# Altium integrated library ERL_Components.IntLib: 76 symbols
Pins are listed as number, name and electrical type; pins without a type are passive.

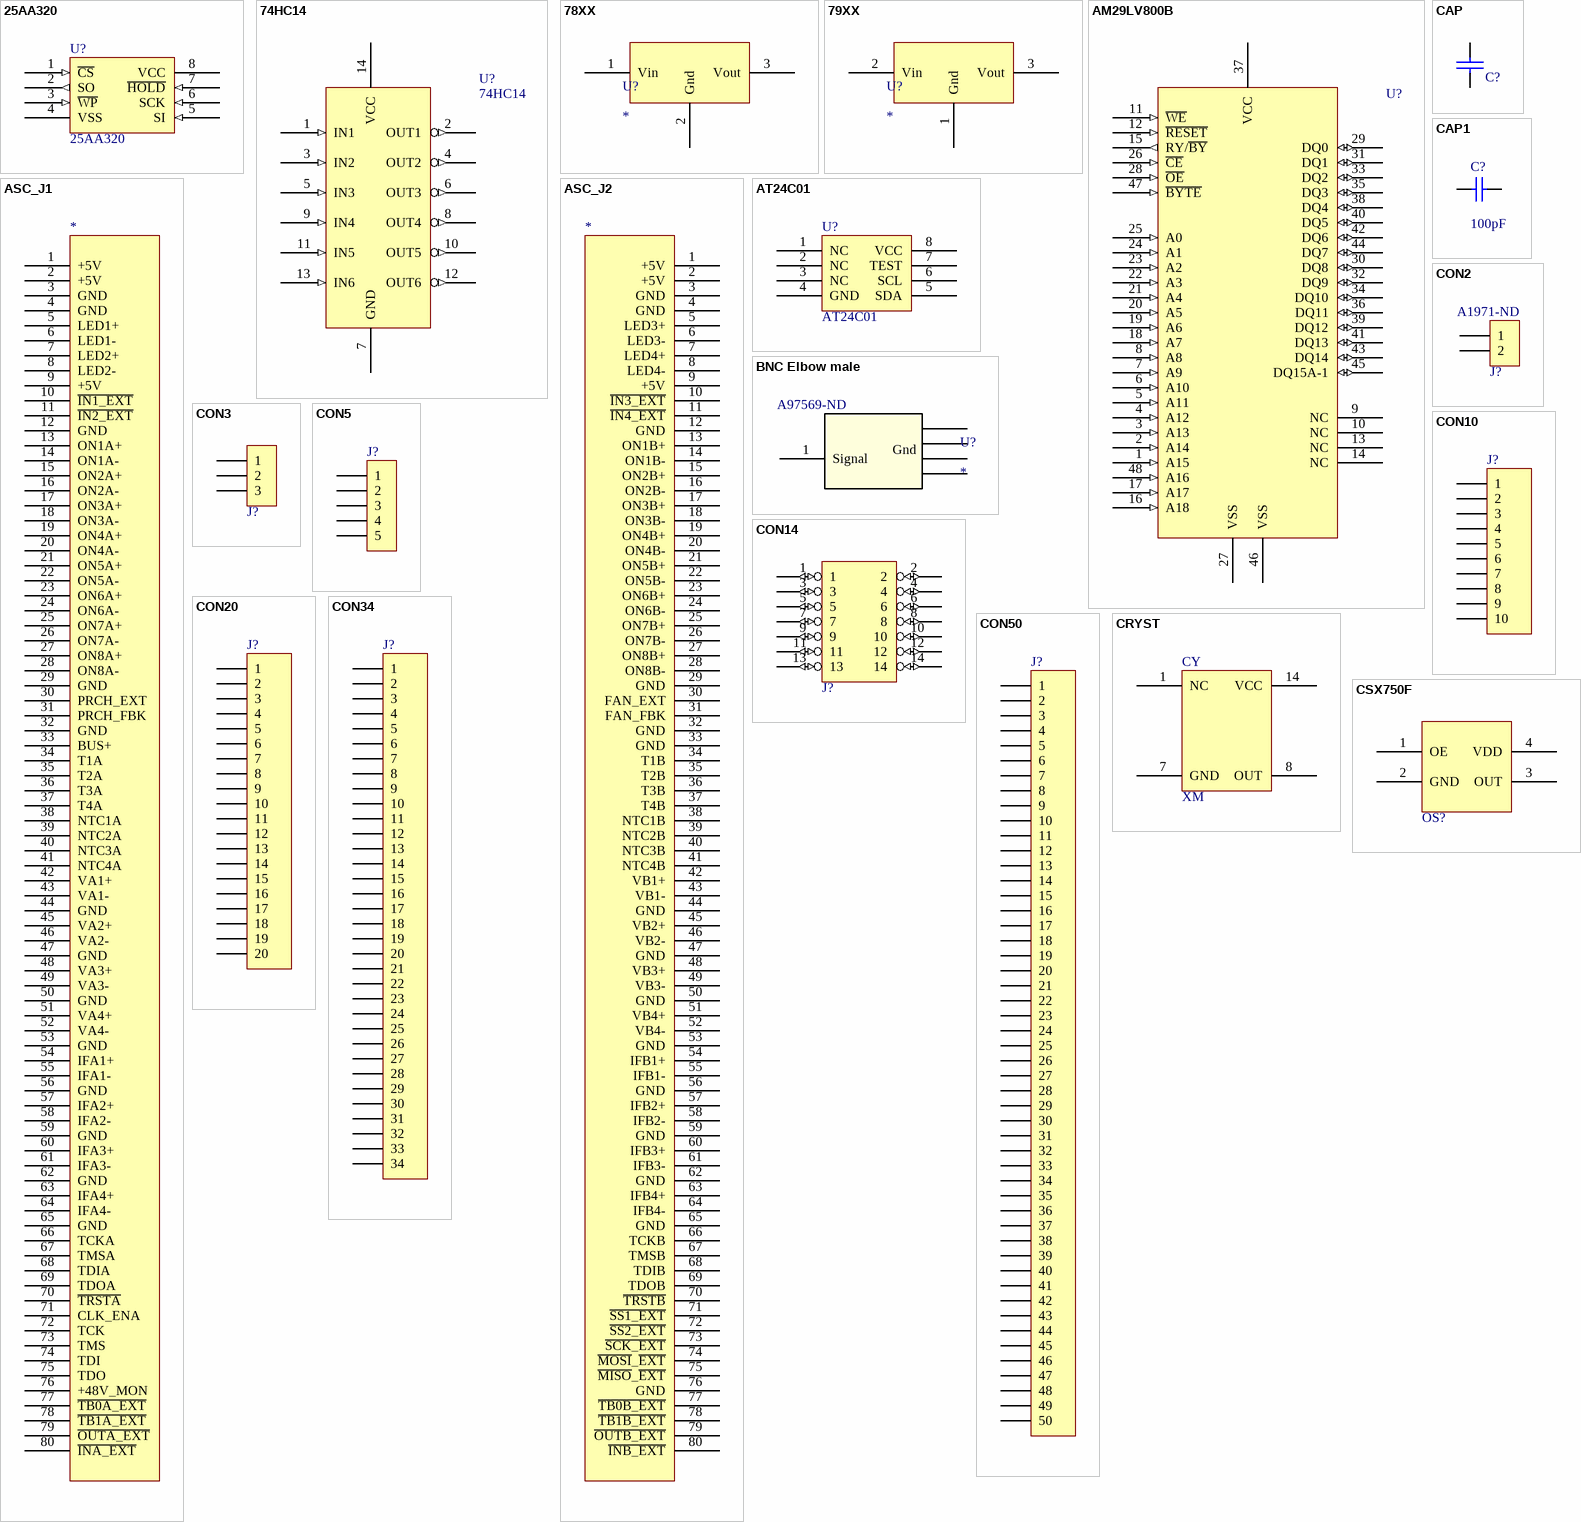
[diagram p0: symbols 25AA320 to CSX750F]

## 25AA320
designator U?
EEPROM
footprint TSSOP8
pins: 1 ~{CS} (in), 2 SO (out), 3 ~{WP} (in), 4 VSS (power), 5 SI (in), 6 SCK (in), 7 ~{HOLD} (in), 8 VCC (power)

## 74HC14
designator U?
Hex Schmitt Trigger Inverters
footprint DIP20
footprint SO-G14
pins: 1 IN1 (in), 2 OUT1 (out), 3 IN2 (in), 4 OUT2 (out), 5 IN3 (in), 6 OUT3 (out), 7 GND (power), 8 OUT4 (out), 9 IN4 (in), 10 OUT5 (out), 11 IN5 (in), 12 OUT6 (out), 13 IN6 (in), 14 VCC (power)

## 78XX
designator U?
Positive linear voltage regulator (1 A)
footprint TO-220
pins: 1 Vin, 2 Gnd, 3 Vout

## 79XX
designator U?
Negative linear voltage regulator (1 A)
footprint TO-220
pins: 1 Gnd, 2 Vin, 3 Vout

## AM29LV800B
designator U?  (value not drawn)
8 Mbit (1Mb x8 or 512Kb x16 Flash Memory, Standard TSOP
footprint TSSO12x20-G48/P.5
pins: 1 A15 (in), 2 A14 (in), 3 A13 (in), 4 A12 (in), 5 A11 (in), 6 A10 (in), 7 A9 (in), 8 A8 (in), 9 NC, 10 NC, 11 ~{WE} (in), 12 ~{RESET} (in), 13 NC, 14 NC, 15 RY/~{BY} (out), 16 A18 (in), 17 A17 (in), 18 A7 (in), 19 A6 (in), 20 A5 (in), 21 A4 (in), 22 A3 (in), 23 A2 (in), 24 A1 (in), 25 A0 (in), 26 ~{CE} (in), 27 VSS (power), 28 ~{OE} (in), 29 DQ0 (io), 30 DQ8 (io), 31 DQ1 (io), 32 DQ9 (io), 33 DQ2 (io), 34 DQ10 (io), 35 DQ3 (io), 36 DQ11 (io), 37 VCC (power), 38 DQ4 (io), 39 DQ12 (io), 40 DQ5 (io), 41 DQ13 (io), 42 DQ6 (io), 43 DQ14 (io), 44 DQ7 (io), 45 DQ15A-1 (io), 46 VSS (power), 47 ~{BYTE} (in), 48 A16 (in)

## ASC_J1
designator *
footprint SFML-80N
pins: 1 +5V, 2 +5V, 3 GND, 4 GND, 5 LED1+, 6 LED1-, 7 LED2+, 8 LED2-, 9 +5V, 10 ~{IN1_EXT}, 11 ~{IN2_EXT}, 12 GND, 13 ON1A+, 14 ON1A-, 15 ON2A+, 16 ON2A-, 17 ON3A+, 18 ON3A-, 19 ON4A+, 20 ON4A-, 21 ON5A+, 22 ON5A-, 23 ON6A+, 24 ON6A-, 25 ON7A+, 26 ON7A-, 27 ON8A+, 28 ON8A-, 29 GND, 30 PRCH_EXT, 31 PRCH_FBK, 32 GND, 33 BUS+, 34 T1A, 35 T2A, 36 T3A, 37 T4A, 38 NTC1A, 39 NTC2A, 40 NTC3A, 41 NTC4A, 42 VA1+, 43 VA1-, 44 GND, 45 VA2+, 46 VA2-, 47 GND, 48 VA3+, 49 VA3-, 50 GND, 51 VA4+, 52 VA4-, 53 GND, 54 IFA1+, 55 IFA1-, 56 GND, 57 IFA2+, 58 IFA2-, 59 GND, 60 IFA3+, 61 IFA3-, 62 GND, 63 IFA4+, 64 IFA4-, 65 GND, 66 TCKA, 67 TMSA, 68 TDIA, 69 TDOA, 70 ~{TRSTA}, 71 CLK_ENA, 72 TCK, 73 TMS, 74 TDI, 75 TDO, 76 +48V_MON, 77 ~{TB0A_EXT}, 78 ~{TB1A_EXT}, 79 ~{OUTA_EXT}, 80 ~{INA_EXT}

## ASC_J2
designator *
footprint SFML-80N
pins: 1 +5V, 2 +5V, 3 GND, 4 GND, 5 LED3+, 6 LED3-, 7 LED4+, 8 LED4-, 9 +5V, 10 ~{IN3_EXT}, 11 ~{IN4_EXT}, 12 GND, 13 ON1B+, 14 ON1B-, 15 ON2B+, 16 ON2B-, 17 ON3B+, 18 ON3B-, 19 ON4B+, 20 ON4B-, 21 ON5B+, 22 ON5B-, 23 ON6B+, 24 ON6B-, 25 ON7B+, 26 ON7B-, 27 ON8B+, 28 ON8B-, 29 GND, 30 FAN_EXT, 31 FAN_FBK, 32 GND, 33 GND, 34 T1B, 35 T2B, 36 T3B, 37 T4B, 38 NTC1B, 39 NTC2B, 40 NTC3B, 41 NTC4B, 42 VB1+, 43 VB1-, 44 GND, 45 VB2+, 46 VB2-, 47 GND, 48 VB3+, 49 VB3-, 50 GND, 51 VB4+, 52 VB4-, 53 GND, 54 IFB1+, 55 IFB1-, 56 GND, 57 IFB2+, 58 IFB2-, 59 GND, 60 IFB3+, 61 IFB3-, 62 GND, 63 IFB4+, 64 IFB4-, 65 GND, 66 TCKB, 67 TMSB, 68 TDIB, 69 TDOB, 70 ~{TRSTB}, 71 ~{SS1_EXT}, 72 ~{SS2_EXT}, 73 ~{SCK_EXT}, 74 ~{MOSI}_~{EXT}, 75 ~{MISO}_~{EXT}, 76 GND, 77 ~{TB0B_EXT}, 78 ~{TB1B_EXT}, 79 ~{OUTB_EXT}, 80 ~{INB_EXT}

## AT24C01
designator U?
EEPROM
footprint DIP8
pins: 1 NC, 2 NC, 3 NC, 4 GND, 5 SDA, 6 SCL, 7 TEST, 8 VCC

## BNC Elbow male
designator U?  Supplier Part Number 1: A97569-ND
BNC Low Profile Elbow Connector; Manufacturer_Part_Number: 5-1634513-1; Manufacturer: TE Connectivity; Vendor: Tyco Electronics; Description: CONN BNC JACK R/A 50 OHM PCB; Body Material: Zinc; Body Plating: Nickel; Dielectric Material: PTFE; Impedance: 50R; Contact Resistance: 1.5mR; Mating Cycles: 50; Gender: Female; Frequency: 2GHz; Connector Type: BNC,Jack; Insulation Resistance: 5GR; Working Voltage: 500V; Polarity: Normal; Number of Positions: 1; PCB Mount Retention: With; PCB Mounting Orientation: Right Angle; Sealable: No (Without); PCB Thickness: 0.126inch; Copyright: Copyright (C) 2015 Accelerated Designs. All rights reserved; Value: Value; Type: Type; RefDes: RefDes; Supplier 1: Digi-Key; Manufacturer Part Number: 5-1634513-1; Stock 1: 1905; Pricing 1: 1=3.31, 10=3.18, 25=2.9148, 50=2.7824, 100=2.6498, 250=2.3186, 500=2.25234, 1000=1.92112, 2500=1.78863 (USD); Mount: Through Hole,PCB; Contact Material: Bronze; Contact Plating: Gold; Insulation Material: Polytetrafluoroethylene; Min Operating Temperature: -55°C; Max Operating Temperature: 85°C; Packaging: Tray; Package Quantity: 100; Fastening Type: Bayonet; Termination: Solder; Max Frequency: 2GHz; Orientation: Right Angle; Length: 28.1mm; Depth: 11mm; Radiation Hardening: No; REACH SVHC: Unknown; ComponentLink1URL: https://datasheet.ciiva.com/9423/eng-cd-1634513-c-9423831.pdf; ComponentLink1Description: https://datasheet.ciiva.com/9423/eng-cd-1634513-c-9423831.pdf; ComponentLink2URL: https://datasheet.ciiva.com/1448/49781-1448584.pdf; ComponentLink2Description: https://datasheet.ciiva.com/1448/49781-1448584.pdf; ComponentLink3URL: https://datasheet.ciiva.com/5757/49781-5757585.pdf; ComponentLink3Description: https://datasheet.ciiva.com/5757/49781-5757585.pdf; ComponentLink4URL: https://datasheet.ciiva.com/14567/70084641-14567974.pdf; ComponentLink4Description: https://datasheet.ciiva.com/14567/70084641-14567974.pdf; ComponentLink5URL: https://datasheet.ciiva.com/642/eng-cd-1634513-e-642840.pdf; ComponentLink5Description: https://datasheet.ciiva.com/642/eng-cd-1634513-e-642840.pdf; ComponentLink6URL: https://datasheet.ciiva.com/16652/eng-cd-1634513-c-16652898.pdf; ComponentLink6Description: https://datasheet.ciiva.com/16652/eng-cd-1634513-c-16652898.pdf; ComponentLink7URL: https://datasheet.ciiva.com/11762/0900766b807b5959-11762602.pdf; ComponentLink7Description: https://datasheet.ciiva.com/11762/0900766b807b5959-11762602.pdf
footprint 5-1814400-1
pins: 1 Signal, 2, 3, 4, 5
text: Gnd

## CAP
designator C?
Capacitor
footprint C104
pins: 1, 2

## CAP1
designator C?  value 100pF
Capacitor; Manufacturer: Generic Components; Class I: Passive; Published: 8-Jun-2000; Revision: July-2002: Re-released for DXP Platform.; Publisher: Altium Limited; Class II: Capacitor
footprint RAD0.1
footprint RAD0.2
footprint RAD0.3
footprint 0805
footprint 1206
footprint 1210
footprint C1206
pins: 1, 2

## CON2
designator J?  Supplier Part Number 1: A1971-ND
Connector; Manufacturer: TE Connectivity; Manufacturer Part Number: 640445-2; Description: CONN HEADER VERT 2POS .156 TIN; Underplate Material: Nickel; Current Rating: 7A; Number of Positions: 2; Connector Type: Tab; Mating Alignment: No (Without); Contact Resistance: 3mR; Max Voltage Rating (AC): 600V; Connector System: Wire-to-Board; Mating Retention: Yes (With); PCB Mount Retention: Without; Gender: Male; Circuit Application: Power; PCB Mounting Orientation: Vertical; Pitch: 0.156inch; Mating Post Length: 0.4inch; PCB Thickness: 0.063inch; Approvals: CSA; Supplier 1: Digi-Key; Stock 1: 36842; Pricing 1: 1=0.15, 10=0.144, 100=0.0886, 500=0.07332, 1000=0.06416, 5000=0.05499, 10000=0.05347 (USD); Mount: Through Hole,PCB; Contact Plating: Tin; Contact Material: Copper Alloy; Colour: White,Natural; Housing Colour: White; Housing Material: Polyester; Material: Polyester; Min Operating Temperature: -67°C; Max Operating Temperature: 221°C; Number of Rows: 1; Contact Gender: Male; Package Quantity: 1000; Packaging: Bulk; Termination: Solder; Number of Contacts: 2; Shrouded: No (Without); Fastening Type: Friction; Orientation: Straight; Backwall/Post Interruptions: No (Without); Contact Retention: No (Without); Number of Power Positions: 2; PCB Mount Alignment: No (Without); Sealable: No (Without); Strain Relief: No (Without); Contact Current Rating: 7A; Voltage Rating: 600V; Length: 0.312inch; Height: 10.79mm; Depth: 7.62mm; Termination Post Length: 3.18mm; Contact Mating Length: 0.4inch; Radiation Hardening: No; ELV: Compliant; Lead Free: Lead Free; Flammability Rating: UL94 V-0; REACH SVHC: No SVHC; ComponentLink1URL: https://datasheet.ciiva.com/19460/231546-19460984.pdf; ComponentLink1Description: https://datasheet.ciiva.com/19460/231546-19460984.pdf; ComponentLink2URL: https://datasheet.ciiva.com/16200/eng-ds-82056-mta-0608-16200060.pdf; ComponentLink2Description: https://datasheet.ciiva.com/16200/eng-ds-82056-mta-0608-16200060.pdf; ComponentLink3URL: https://datasheet.ciiva.com/3118/eng-ds-82056-mta-0608-3118478.pdf; ComponentLink3Description: https://datasheet.ciiva.com/3118/eng-ds-82056-mta-0608-3118478.pdf; ComponentLink4URL: https://datasheet.ciiva.com/16656/eng-ds-82056-mta-0608-16656510.pdf; ComponentLink4Description: https://datasheet.ciiva.com/16656/eng-ds-82056-mta-0608-16656510.pdf; ComponentLink5URL: https://datasheet.ciiva.com/11747/0900766b812be9d8-11747738.pdf; ComponentLink5Description: https://datasheet.ciiva.com/11747/0900766b812be9d8-11747738.pdf; ComponentLink6URL: https://datasheet.ciiva.com/709/eng-cd-640445-ad1-709687.pdf; ComponentLink6Description: https://datasheet.ciiva.com/709/eng-cd-640445-ad1-709687.pdf; ComponentLink7URL: https://datasheet.ciiva.com/14638/70083689-14638437.pdf; ComponentLink7Description: https://datasheet.ciiva.com/14638/70083689-14638437.pdf; ComponentLink8URL: https://datasheet.ciiva.com/16505/eng-ds-82056-mta-0608-16505416.pdf; ComponentLink8Description: https://datasheet.ciiva.com/16505/eng-ds-82056-mta-0608-16505416.pdf; ComponentLink9URL: https://datasheet.ciiva.com/7703/100170-7703301.pdf; ComponentLink9Description: https://datasheet.ciiva.com/7703/100170-7703301.pdf; ComponentLink10URL: https://datasheet.ciiva.com/48697/001278462-da-01-en-stiftleiste-gerade-640445-2-48697366.pdf; ComponentLink10Description: https://datasheet.ciiva.com/48697/001278462-da-01-en-stiftleiste-gerade-640445-2-48697366.pdf
footprint CONT2_2
footprint 3100-8-102-01
pins: 1, 2

## CON3
designator J?
Connector
footprint CONT3_2
pins: 1, 2, 3

## CON5
designator J?
Connector
footprint CONT5_2
footprint SIP5
pins: 1, 2, 3, 4, 5

## CON10
designator J?
Connector
footprint FKV10SN
pins: 1, 2, 3, 4, 5, 6, 7, 8, 9, 10

## CON14
designator J?
Connector
footprint FKV14SN
footprint IDC14
footprint JTAGCPLD-14
pins: 1 (io), 2 (io), 3 (io), 4 (io), 5 (io), 6 (io), 7 (io), 8 (io), 9 (io), 10 (io), 11 (io), 12 (io), 13 (io), 14 (io)

## CON20
designator J?
Connector
footprint FKV20SN
pins: 1, 2, 3, 4, 5, 6, 7, 8, 9, 10, 11, 12, 13, 14, 15, 16, 17, 18, 19, 20

## CON34
designator J?
Connector
footprint FKV34SN
pins: 1, 2, 3, 4, 5, 6, 7, 8, 9, 10, 11, 12, 13, 14, 15, 16, 17, 18, 19, 20, 21, 22, 23, 24, 25, 26, 27, 28, 29, 30, 31, 32, 33, 34

## CON50
designator J?
Connector
footprint FKV50SN
pins: 1, 2, 3, 4, 5, 6, 7, 8, 9, 10, 11, 12, 13, 14, 15, 16, 17, 18, 19, 20, 21, 22, 23, 24, 25, 26, 27, 28, 29, 30, 31, 32, 33, 34, 35, 36, 37, 38, 39, 40, 41, 42, 43, 44, 45, 46, 47, 48, 49, 50

## CRYST
designator CY, comment XM
Oscillator
footprint CRYSTPCB
pins: 1 NC, 7 GND, 8 OUT, 14 VCC

## CSX750F
designator OS?  (value not drawn)
Clock Oscillator
footprint SM_CLKOS
pins: 1 OE, 2 GND, 3 OUT, 4 VDD

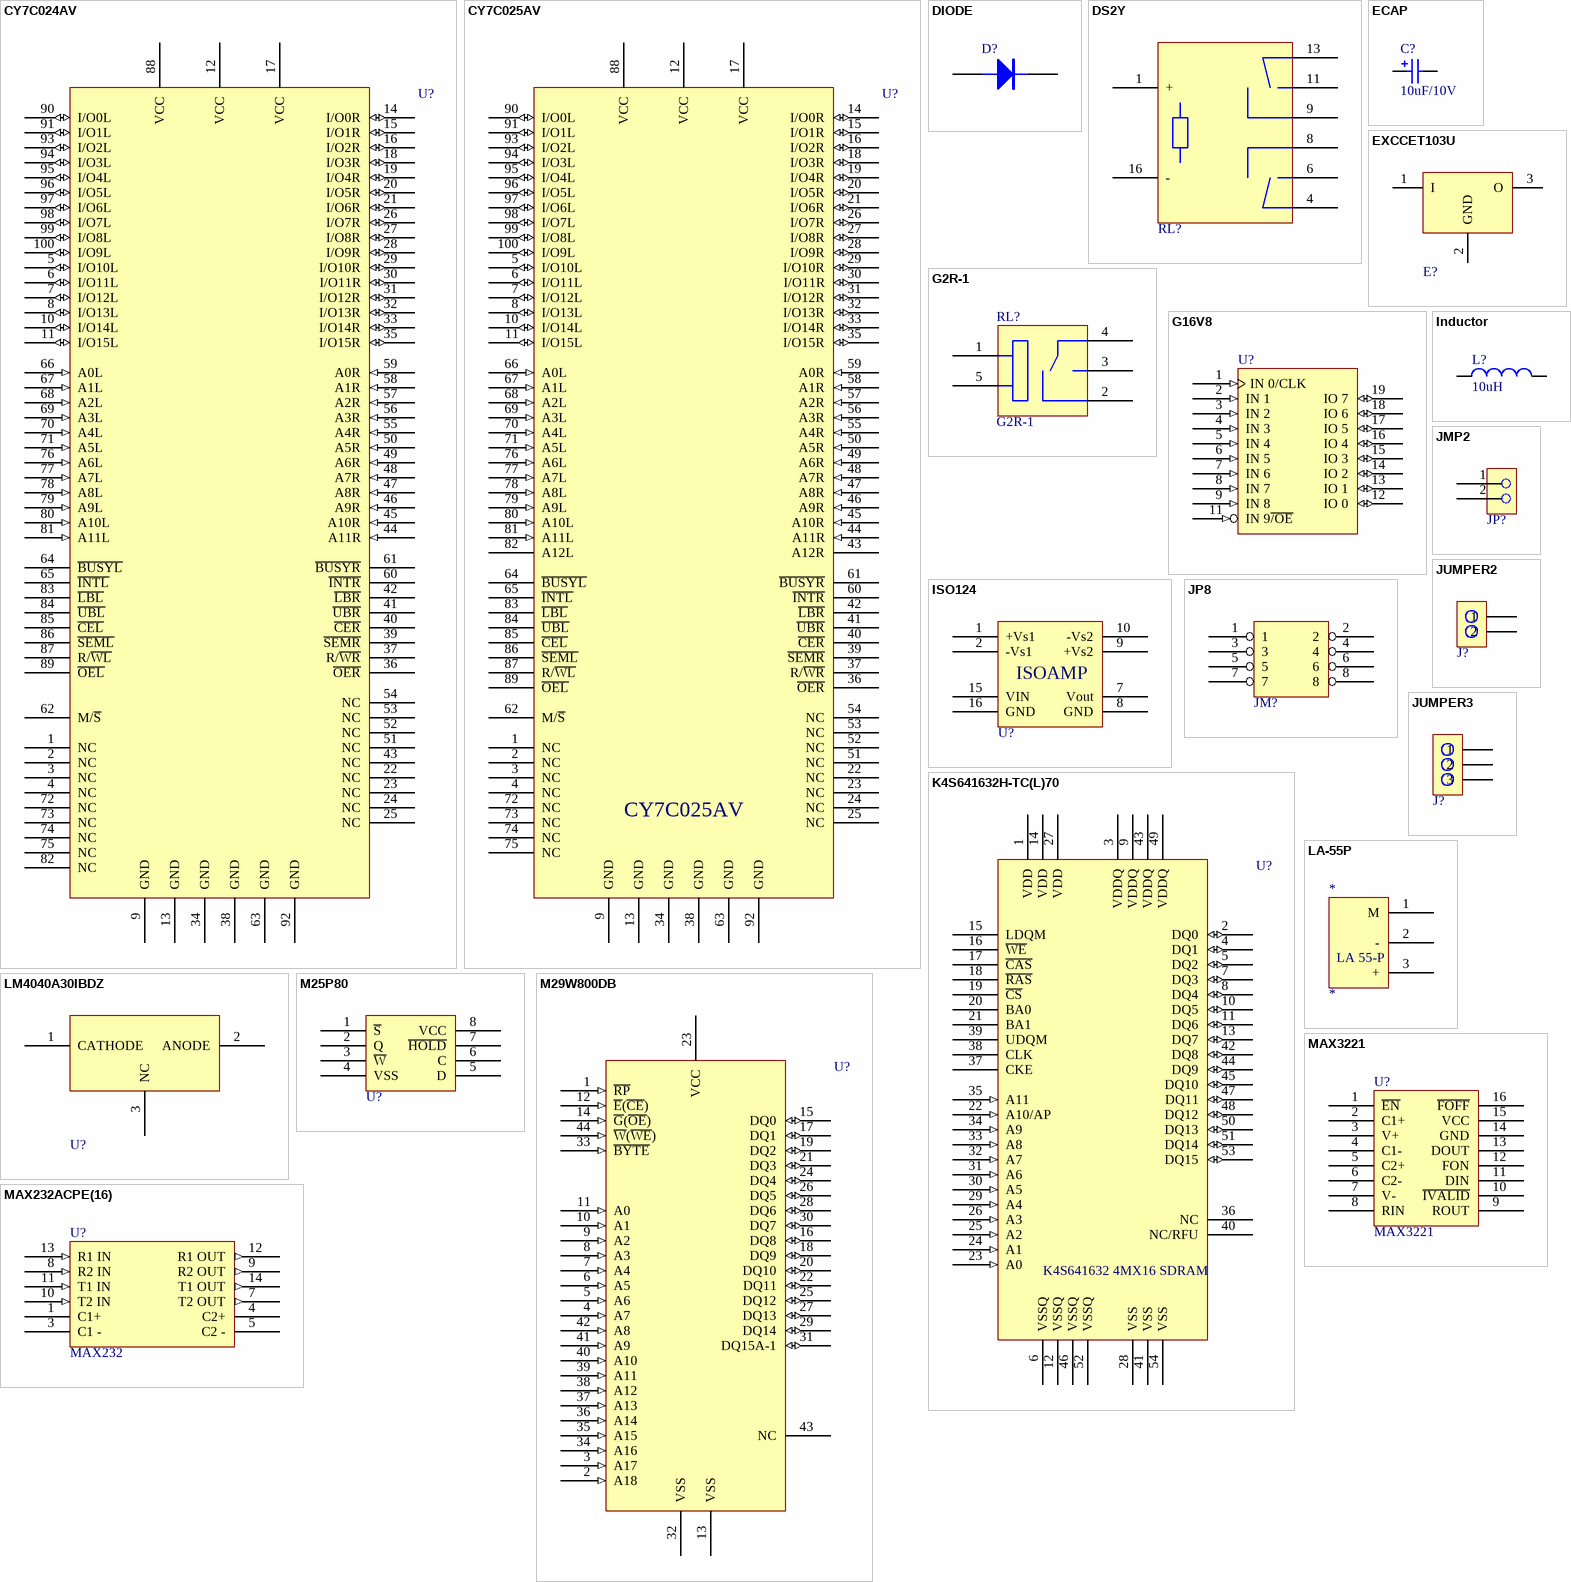
[diagram p1: symbols CY7C024AV to MAX3221]

## CY7C024AV
designator U?  (value not drawn)
3.3V 4Kx 16 Dual-Port Static RAM
footprint F-QFP14X14-G100/N
pins: 1 NC, 2 NC, 3 NC, 4 NC, 5 I/O10L (io), 6 I/O11L (io), 7 I/O12L (io), 8 I/O13L (io), 9 GND (power), 10 I/O14L (io), 11 I/O15L (io), 12 VCC (power), 13 GND (power), 14 I/O0R (io), 15 I/O1R (io), 16 I/O2R (io), 17 VCC (power), 18 I/O3R (io), 19 I/O4R (io), 20 I/O5R (io), 21 I/O6R (io), 22 NC, 23 NC, 24 NC, 25 NC, 26 I/O7R (io), 27 I/O8R (io), 28 I/O9R (io), 29 I/O10R (io), 30 I/O11R (io), 31 I/O12R (io), 32 I/O13R (io), 33 I/O14R (io), 34 GND (power), 35 I/O15R (io), 36 ~{OER}, 37 R/~{WR}, 38 GND, 39 ~{SEMR}, 40 ~{CER}, 41 ~{UBR}, 42 ~{LBR}, 43 NC, 44 A11R (in), 45 A10R (in), 46 A9R (in), 47 A8R (in), 48 A7R (in), 49 A6R (in), 50 A5R (in), 51 NC, 52 NC, 53 NC, 54 NC, 55 A4R (in), 56 A3R (in), 57 A2R (in), 58 A1R (in), 59 A0R (in), 60 ~{INTR}, 61 ~{BUSYR}, 62 M/~{S}, 63 GND, 64 ~{BUSYL}, 65 ~{INTL}, 66 A0L (in), 67 A1L (in), 68 A2L (in), 69 A3L (in), 70 A4L (in), 71 A5L (in), 72 NC, 73 NC, 74 NC, 75 NC, 76 A6L (in), 77 A7L (in), 78 A8L (in), 79 A9L (in), 80 A10L (in), 81 A11L (in), 82 NC, 83 ~{LBL}, 84 ~{UBL}, 85 ~{CEL}, 86 ~{SEML}, 87 R/~{WL}, 88 VCC (power), 89 ~{OEL}, 90 I/O0L (io), 91 I/O1L (io), 92 GND, 93 I/O2L (io), 94 I/O3L (io), 95 I/O4L (io), 96 I/O5L (io), 97 I/O6L (io), 98 I/O7L (io), 99 I/O8L (io), 100 I/O9L (io)

## CY7C025AV
designator U?  (value not drawn)
3.3V 8Kx 16 Dual-Port Static RAM
footprint F-QFP14X14-G100/N
pins: 1 NC, 2 NC, 3 NC, 4 NC, 5 I/O10L (io), 6 I/O11L (io), 7 I/O12L (io), 8 I/O13L (io), 9 GND (power), 10 I/O14L (io), 11 I/O15L (io), 12 VCC (power), 13 GND (power), 14 I/O0R (io), 15 I/O1R (io), 16 I/O2R (io), 17 VCC (power), 18 I/O3R (io), 19 I/O4R (io), 20 I/O5R (io), 21 I/O6R (io), 22 NC, 23 NC, 24 NC, 25 NC, 26 I/O7R (io), 27 I/O8R (io), 28 I/O9R (io), 29 I/O10R (io), 30 I/O11R (io), 31 I/O12R (io), 32 I/O13R (io), 33 I/O14R (io), 34 GND (power), 35 I/O15R (io), 36 ~{OER}, 37 R/~{WR}, 38 GND, 39 ~{SEMR}, 40 ~{CER}, 41 ~{UBR}, 42 ~{LBR}, 43 A12R, 44 A11R (in), 45 A10R (in), 46 A9R (in), 47 A8R (in), 48 A7R (in), 49 A6R (in), 50 A5R (in), 51 NC, 52 NC, 53 NC, 54 NC, 55 A4R (in), 56 A3R (in), 57 A2R (in), 58 A1R (in), 59 A0R (in), 60 ~{INTR}, 61 ~{BUSYR}, 62 M/~{S}, 63 GND, 64 ~{BUSYL}, 65 ~{INTL}, 66 A0L (in), 67 A1L (in), 68 A2L (in), 69 A3L (in), 70 A4L (in), 71 A5L (in), 72 NC, 73 NC, 74 NC, 75 NC, 76 A6L (in), 77 A7L (in), 78 A8L (in), 79 A9L (in), 80 A10L (in), 81 A11L (in), 82 A12L, 83 ~{LBL}, 84 ~{UBL}, 85 ~{CEL}, 86 ~{SEML}, 87 R/~{WL}, 88 VCC (power), 89 ~{OEL}, 90 I/O0L (io), 91 I/O1L (io), 92 GND, 93 I/O2L (io), 94 I/O3L (io), 95 I/O4L (io), 96 I/O5L (io), 97 I/O6L (io), 98 I/O7L (io), 99 I/O8L (io), 100 I/O9L (io)

## DIODE
designator D?
Diode
footprint DIODE0.4
pins: 1 A, 2 K

## DS2Y
designator RL?
Relay
footprint DS2Y
pins: 1 +, 4, 6, 8, 9, 11, 13, 16 -

## ECAP
designator C?  value 10uF/10V  (hidden comment: ECAP)
Polarized Capacitor (Surface Mount); Manufacturer: Generic Components; Class I: Passive; Published: 8-Jun-2000; Revision: July-2002: Re-released for DXP Platform.; Publisher: Altium Limited; Class II: Capacitor
footprint 1206
footprint 2220
footprint 1812
footprint 1210
footprint 1825
footprint CAP.2/.5 (ESMG500ELL102MK25S)
pins: 1, 2

## EXCCET103U
designator E?  (value not drawn)
EMI FILTER
footprint EMIFT
pins: 1 I, 2 GND (power), 3 O

## G2R-1
designator RL?
Relay
footprint G2R-1
pins: 1, 2, 3, 4, 5

## G16V8
designator U?
ZERO-POWER 20-PIN EE CMOS UNIVERSAL PAL
footprint DIP20
pins: 1 IN 0/CLK (in), 2 IN 1 (in), 3 IN 2 (in), 4 IN 3 (in), 5 IN 4 (in), 6 IN 5 (in), 7 IN 6 (in), 8 IN 7 (in), 9 IN 8 (in), 10 GND (power) hidden to GND, 11 IN 9~{/OE} (in), 12 IO 0 (io), 13 IO 1 (io), 14 IO 2 (io), 15 IO 3 (io), 16 IO 4 (io), 17 IO 5 (io), 18 IO 6 (io), 19 IO 7 (io), 20 VCC (power) hidden to VCC

## Inductor
designator L?  value 10uH  (hidden comment: Inductor)
Manufacturer: Generic Components; Class I: Passive; Published: 8-Jun-2000; Revision: July-2002: Re-released for DXP Platform.; Publisher: Altium Limited; Class II: Inductor
footprint 0805
footprint 1210
footprint 1812
pins: 1, 2

## ISO124
designator U?  (value not drawn)
Isolation Amp
footprint ISO124
pins: 1 +Vs1, 2 -Vs1, 7 Vout, 8 GND, 9 +Vs2, 10 -Vs2, 15 VIN, 16 GND
text: ISOAMP

## JMP2
designator JP?
Jumper
footprint SIP2
pins: 1, 2

## JP8
designator JM?
Jumper
footprint DIP8
pins: 1, 2, 3, 4, 5, 6, 7, 8

## JUMPER2
designator J?, comment JUMPER3  (value not drawn)
footprint SIP2
pins: 1, 2

## JUMPER3
designator J?  (value not drawn)
footprint SIP3
pins: 1, 2, 3

## K4S641632H-TC(L)70
designator U?  (value not drawn)
4MX16 SDRAM From Samsung
footprint SO-G54/X.5
pins: 1 VDD (power), 2 DQ0 (io), 3 VDDQ (power), 4 DQ1 (io), 5 DQ2 (io), 6 VSSQ (power), 7 DQ3 (io), 8 DQ4 (io), 9 VDDQ (power), 10 DQ5 (io), 11 DQ6 (io), 12 VSSQ (power), 13 DQ7 (io), 14 VDD (power), 15 LDQM, 16 ~{WE}, 17 ~{CAS}, 18 ~{RAS}, 19 ~{CS}, 20 BA0, 21 BA1, 22 A10/AP (in), 23 A0 (in), 24 A1 (in), 25 A2 (in), 26 A3 (in), 27 VDD (power), 28 VSS (power), 29 A4 (in), 30 A5 (in), 31 A6 (in), 32 A7 (in), 33 A8 (in), 34 A9 (in), 35 A11 (in), 36 NC, 37 CKE, 38 CLK, 39 UDQM, 40 NC/RFU, 41 VSS (power), 42 DQ8 (io), 43 VDDQ (power), 44 DQ9 (io), 45 DQ10 (io), 46 VSSQ (power), 47 DQ11 (io), 48 DQ12 (io), 49 VDDQ (power), 50 DQ13 (io), 51 DQ14 (io), 52 VSSQ (power), 53 DQ15 (io), 54 VSS (power)
text: K4S641632 4MX16 SDRAM

## LA-55P
designator *
LEM's DC/AC Current Sensor, 50Arms/70App.
footprint LA 55-P (LEM)
pins: 1 M, 2 -, 3 +
text: LA 55-P

## LM4040A30IBDZ
designator U?  (value not drawn)
3V, 0.045 to 15mA reference
footprint SOT-23
pins: 1 CATHODE, 2 ANODE, 3 NC

## M25P80
designator U?  (value not drawn)
8 Mbit, low voltage, Serial Flash memory / with 40MHz SPI bus interface
footprint SO-8/M25P80
pins: 1 ~{S}, 2 Q, 3 ~{W}, 4 VSS, 5 D, 6 C, 7 ~{HOLD}, 8 VCC

## M29W800DB
designator U?  (value not drawn)
8 Mbit (1Mb x8 or 512Kb x16, Boot Block) / 3V Supply Flash Memory
footprint SO-44/M29W800DB
pins: 1 ~{RP} (in), 2 A18 (in), 3 A17 (in), 4 A7 (in), 5 A6 (in), 6 A5 (in), 7 A4 (in), 8 A3 (in), 9 A2 (in), 10 A1 (in), 11 A0 (in), 12 ~{E}(~{CE}) (in), 13 VSS (power), 14 ~{G}(~{OE}) (in), 15 DQ0 (io), 16 DQ8 (io), 17 DQ1 (io), 18 DQ9 (io), 19 DQ2 (io), 20 DQ10 (io), 21 DQ3 (io), 22 DQ11 (io), 23 VCC (power), 24 DQ4 (io), 25 DQ12 (io), 26 DQ5 (io), 27 DQ13 (io), 28 DQ6 (io), 29 DQ14 (io), 30 DQ7 (io), 31 DQ15A-1 (io), 32 VSS (power), 33 ~{BYTE} (in), 34 A16 (in), 35 A15 (in), 36 A14 (in), 37 A13 (in), 38 A12 (in), 39 A11 (in), 40 A10 (in), 41 A9 (in), 42 A8 (in), 43 NC, 44 ~{W}(~{WE}) (in)

## MAX232ACPE(16)
designator U?, comment MAX232
+-15KV ESD-PROTECTED, +5V RS-232 TRANSCEIVERS
footprint DIP16
pins: 1 C1+, 2 V+ (power) hidden to V+, 3 C1 -, 4 C2+, 5 C2 -, 6 V- (power) hidden to V-, 7 T2 OUT (out), 8 R2 IN (in), 9 R2 OUT (out), 10 T2 IN (in), 11 T1 IN (in), 12 R1 OUT (out), 13 R1 IN (in), 14 T1 OUT (out), 15 GND (power) hidden to GND, 16 VCC (power) hidden to VCC

## MAX3221
designator U?
RS232 Tanceiver
footprint TSSOP16
pins: 1 ~{EN}, 2 C1+, 3 V+, 4 C1-, 5 C2+, 6 C2-, 7 V-, 8 RIN, 9 ROUT, 10 ~{IVALID}, 11 DIN, 12 FON, 13 DOUT, 14 GND, 15 VCC, 16 ~{FOFF}

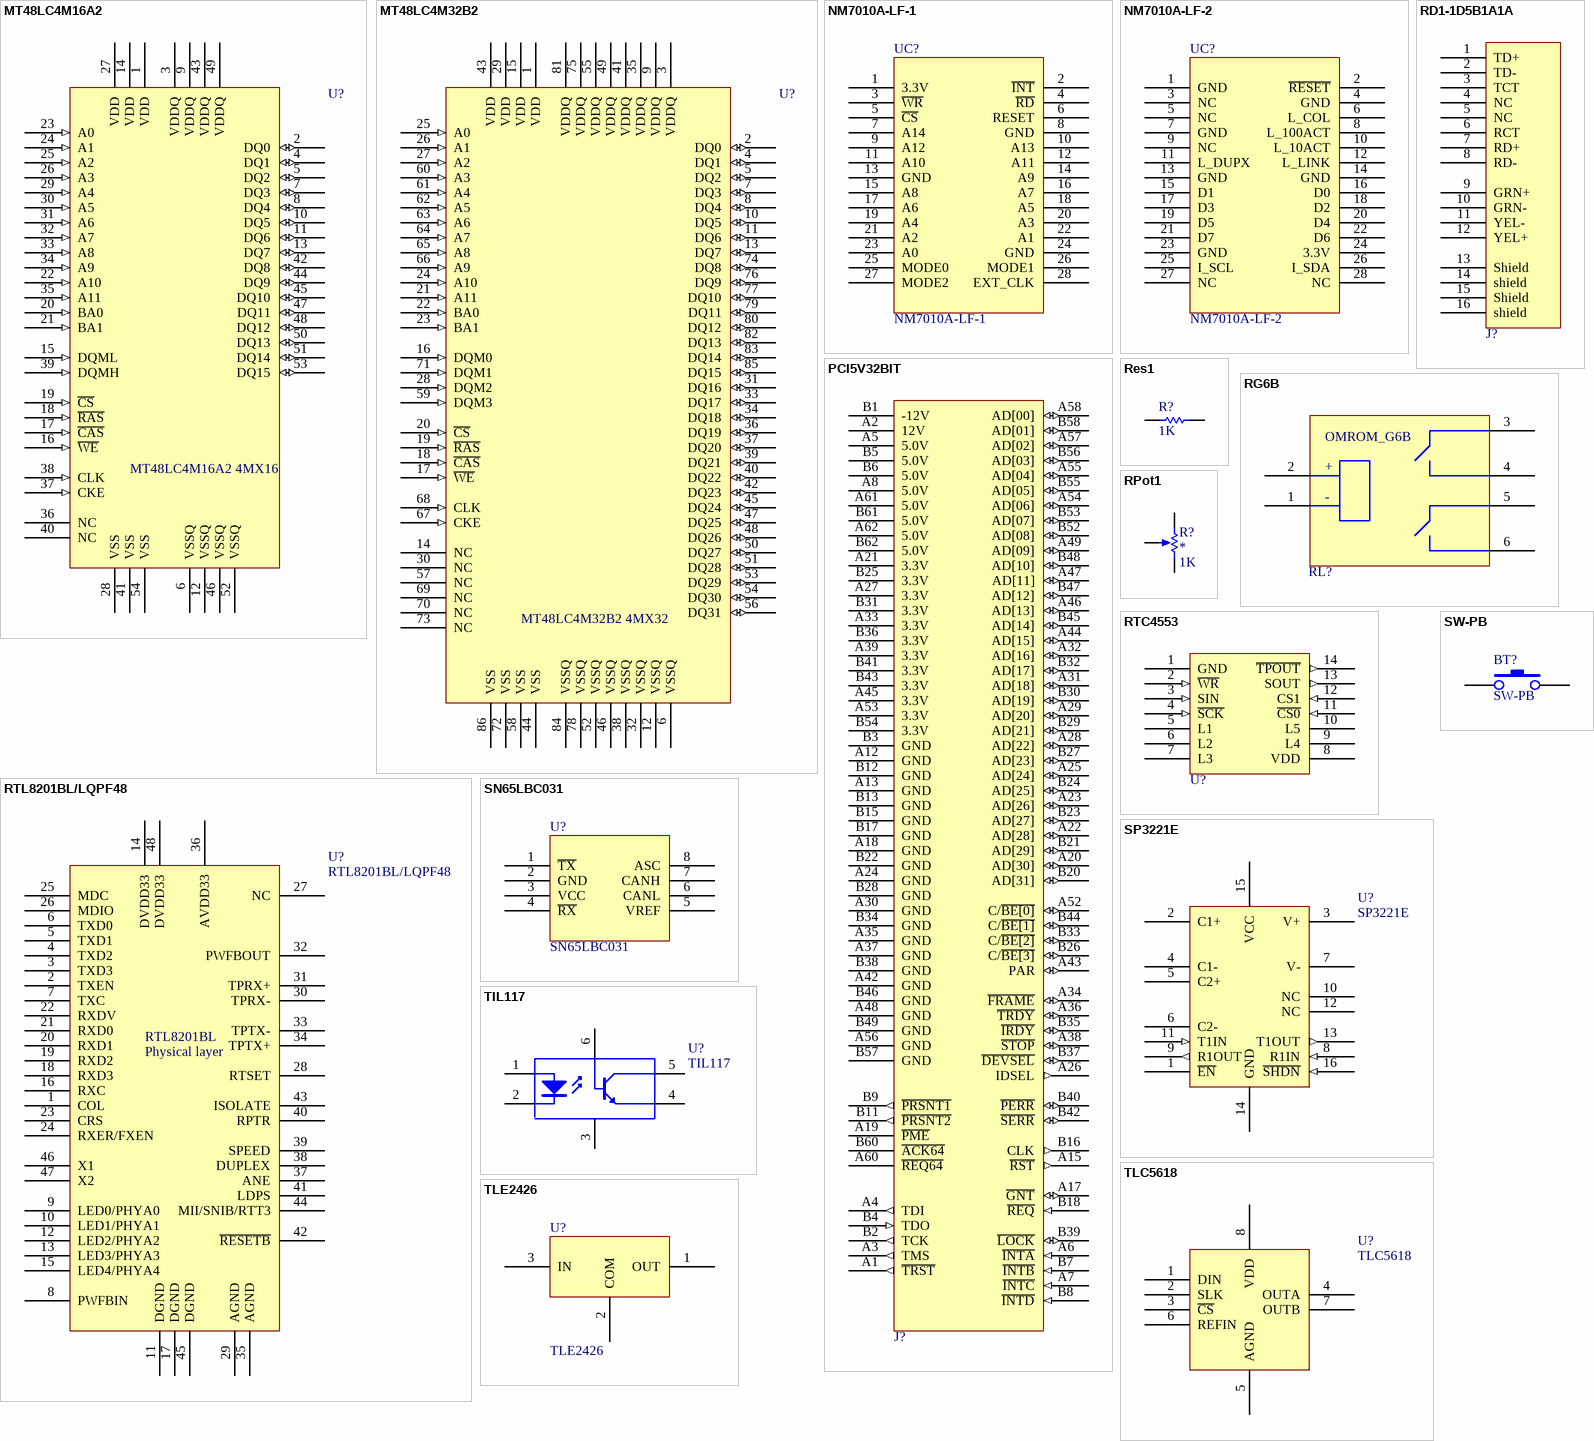
[diagram p2: symbols MT48LC4M16A2 to TLE2426]

## MT48LC4M16A2
designator U?  (value not drawn)
1 MEG x 16x 4 BANKS SDRAM
footprint TSOP54/0.5
pins: 1 VDD (power), 2 DQ0 (io), 3 VDDQ (power), 4 DQ1 (io), 5 DQ2 (io), 6 VSSQ (power), 7 DQ3 (io), 8 DQ4 (io), 9 VDDQ (power), 10 DQ5 (io), 11 DQ6 (io), 12 VSSQ (power), 13 DQ7 (io), 14 VDD (power), 15 DQML (in), 16 ~{WE} (in), 17 ~{CAS} (in), 18 ~{RAS} (in), 19 ~{CS} (in), 20 BA0 (in), 21 BA1 (in), 22 A10 (in), 23 A0 (in), 24 A1 (in), 25 A2 (in), 26 A3 (in), 27 VDD (power), 28 VSS (power), 29 A4 (in), 30 A5 (in), 31 A6 (in), 32 A7 (in), 33 A8 (in), 34 A9 (in), 35 A11 (in), 36 NC, 37 CKE (in), 38 CLK (in), 39 DQMH (in), 40 NC, 41 VSS (power), 42 DQ8 (io), 43 VDDQ (power), 44 DQ9 (io), 45 DQ10 (io), 46 VSSQ (power), 47 DQ11 (io), 48 DQ12 (io), 49 VDDQ (power), 50 DQ13 (io), 51 DQ14 (io), 52 VSSQ (power), 53 DQ15 (io), 54 VSS (power)
text: MT48LC4M16A2 4MX16

## MT48LC4M32B2
designator U?  (value not drawn)
1 MEG x 32 x 4 BANKS SDRAM
footprint TSOP86/0.5
pins: 1 VDD (power), 2 DQ0 (io), 3 VDDQ (power), 4 DQ1 (io), 5 DQ2 (io), 6 VSSQ (power), 7 DQ3 (io), 8 DQ4 (io), 9 VDDQ (power), 10 DQ5 (io), 11 DQ6 (io), 12 VSSQ (power), 13 DQ7 (io), 14 NC, 15 VDD (power), 16 DQM0 (in), 17 ~{WE} (in), 18 ~{CAS} (in), 19 ~{RAS} (in), 20 ~{CS} (in), 21 A11 (in), 22 BA0 (in), 23 BA1 (in), 24 A10 (in), 25 A0 (in), 26 A1 (in), 27 A2 (in), 28 DQM2 (in), 29 VDD (power), 30 NC, 31 DQ16 (io), 32 VSSQ (power), 33 DQ17 (io), 34 DQ18 (io), 35 VDDQ (power), 36 DQ19 (io), 37 DQ20 (io), 38 VSSQ (power), 39 DQ21 (io), 40 DQ22 (io), 41 VDDQ (power), 42 DQ23 (io), 43 VDD (power), 44 VSS (power), 45 DQ24 (io), 46 VSSQ (power), 47 DQ25 (io), 48 DQ26 (io), 49 VDDQ (power), 50 DQ27 (io), 51 DQ28 (io), 52 VSSQ (power), 53 DQ29 (io), 54 DQ30 (io), 55 VDDQ (power), 56 DQ31 (io), 57 NC, 58 VSS (power), 59 DQM3 (in), 60 A3 (in), 61 A4 (in), 62 A5 (in), 63 A6 (in), 64 A7 (in), 65 A8 (in), 66 A9 (in), 67 CKE (in), 68 CLK (in), 69 NC, 70 NC, 71 DQM1 (in), 72 VSS (power), 73 NC, 74 DQ8 (io), 75 VDDQ (power), 76 DQ9 (io), 77 DQ10 (io), 78 VSSQ (power), 79 DQ11 (io), 80 DQ12 (io), 81 VDDQ (power), 82 DQ13 (io), 83 DQ14 (io), 84 VSSQ (power), 85 DQ15 (io), 86 VSS (power)
text: MT48LC4M32B2 4MX32

## NM7010A-LF-1
designator UC?
Ethernet connection part1
pins: 1 3.3V (power), 2 ~{INT}, 3 ~{WR}, 4 ~{RD}, 5 ~{CS}, 6 RESET, 7 A14, 8 GND (power), 9 A12, 10 A13, 11 A10, 12 A11, 13 GND (power), 14 A9, 15 A8, 16 A7, 17 A6, 18 A5, 19 A4, 20 A3, 21 A2, 22 A1, 23 A0, 24 GND, 25 MODE0, 26 MODE1, 27 MODE2, 28 EXT_CLK

## NM7010A-LF-2
designator UC?
Ethernet connection part1
pins: 1 GND (power), 2 ~{RESET}, 3 NC, 4 GND (power), 5 NC, 6 L_COL, 7 GND (power), 8 L_100ACT, 9 NC, 10 L_10ACT, 11 L_DUPX, 12 L_LINK, 13 GND (power), 14 GND (power), 15 D1, 16 D0, 17 D3, 18 D2, 19 D5, 20 D4, 21 D7, 22 D6, 23 GND (power), 24 3.3V (power), 25 I_SCL, 26 I_SDA, 27 NC, 28 NC

## PCI5V32BIT
designator J?
PCI Bus
footprint PCI5V32BIT
pins: A1 ~{TRST} (out), A2 12V, A3 TMS (out), A4 TDI (out), A5 5.0V (power), A6 ~{INTA} (in), A7 ~{INTC} (in), A8 5.0V (power), A12 GND (power), A13 GND (power), A15 ~{RST} (out), A17 ~{GNT} (io), A18 GND (power), A19 ~{PME}, A20 AD[30] (io), A21 3.3V (power), A22 AD[28] (io), A23 AD[26] (io), A24 GND (power), A25 AD[24] (io), A26 IDSEL (out), A27 3.3V (power), A28 AD[22] (io), A29 AD[20] (io), A30 GND (power), A31 AD[18] (io), A32 AD[16] (io), A33 3.3V (power), A34 ~{FRAME} (io), A35 GND (power), A36 ~{TRDY} (io), A37 GND (power), A38 ~{STOP} (io), A39 3.3V (power), A42 GND (power), A43 PAR (io), A44 AD[15] (io), A45 3.3V (power), A46 AD[13] (io), A47 AD[11] (io), A48 GND (power), A49 AD[09] (io), A52 C/~{BE[0]} (io), A53 3.3V (power), A54 AD[06] (io), A55 AD[04] (io), A56 GND (power), A57 AD[02] (io), A58 AD[00] (io), A60 ~{REQ64}, A61 5.0V (power), A62 5.0V (power), B1 -12V, B2 TCK (out), B3 GND (power), B4 TDO (in), B5 5.0V (power), B6 5.0V (power), B7 ~{INTB} (in), B8 ~{INTD} (in), B9 ~{PRSNT1} (out), B11 ~{PRSNT2} (out), B12 GND (power), B13 GND (power), B15 GND (power), B16 CLK (out), B17 GND (power), B18 ~{REQ} (in), B20 AD[31] (io), B21 AD[29] (io), B22 GND (power), B23 AD[27] (io), B24 AD[25] (io), B25 3.3V (power), B26 C/~{BE[3]} (io), B27 AD[23] (io), B28 GND (power), B29 AD[21] (io), B30 AD[19] (io), B31 3.3V (power), B32 AD[17] (io), B33 C/~{BE[2]} (io), B34 GND (power), B35 ~{IRDY} (io), B36 3.3V (power), B37 ~{DEVSEL} (io), B38 GND (power), B39 ~{LOCK} (io), B40 ~{PERR} (io), B41 3.3V (power), B42 ~{SERR} (io), B43 3.3V (power), B44 C/~{BE[1]} (io), B45 AD[14] (io), B46 GND (power), B47 AD[12] (io), B48 AD[10] (io), B49 GND (power), B52 AD[08] (io), B53 AD[07] (io), B54 3.3V (power), B55 AD[05] (io), B56 AD[03] (io), B57 GND (power), B58 AD[01] (io), B60 ~{ACK64}, B61 5.0V (power), B62 5.0V (power)

## RD1-1D5B1A1A
designator J?  (value not drawn)
RJ45 with transformer
footprint RD1-1D5B1A1A
pins: 1 TD+, 2 TD-, 3 TCT, 4 NC, 5 NC, 6 RCT, 7 RD+, 8 RD-, 9 GRN+, 10 GRN-, 11 YEL-, 12 YEL+, 13 Shield, 14 shield, 15 Shield, 16 shield

## Res1
designator R?  value 1K  (hidden comment: Res1)
Resistor/0.1W; Manufacturer: Generic Components; Class I: Passive; Published: 8-Jun-2000; Revision: July-2002: Re-released for DXP Platform.; Publisher: Altium Limited; Class II: Resistor
footprint 0805
footprint 1206
footprint 0603
footprint AXIAL0.3
footprint R0805
pins: 1, 2

## RG6B
designator RL?  (value not drawn)
Relay
footprint G6B
pins: 1, 2, 3, 4, 5, 6
text: OMROM_G6B; +; -

## RPot1
designator R?  value 1K
Potentiometer; Manufacturer: Generic Components; Class I: Passive; Set Position: 0.5; Published: 8-Jun-2000; Revision: July-2002: Re-released for DXP Platform.; Publisher: Altium Limited; Class II: Potentiometer
simulation model POT (Potentiometer)
footprint VR5
pins: 1 TOP, 2 BOT, 3 TAP

## RTC4553
designator U?  (value not drawn)
Real Time Clock
footprint SO-14
pins: 1 GND (power), 2 ~{WR} (in), 3 SIN (in), 4 ~{SCK} (in), 5 L1, 6 L2, 7 L3, 8 VDD (power), 9 L4, 10 L5, 11 ~{CS0} (in), 12 CS1 (in), 13 SOUT (out), 14 ~{TPOUT} (out)

## RTL8201BL/LQPF48
designator U?
Physical layer of the TCP/IP
footprint TQFP-48
pins: 1 COL, 2 TXEN, 3 TXD3, 4 TXD2, 5 TXD1, 6 TXD0, 7 TXC, 8 PWFBIN, 9 LED0/PHYA0, 10 LED1/PHYA1, 11 DGND, 12 LED2/PHYA2, 13 LED3/PHYA3, 14 DVDD33, 15 LED4/PHYA4, 16 RXC, 17 DGND, 18 RXD3, 19 RXD2, 20 RXD1, 21 RXD0, 22 RXDV, 23 CRS, 24 RXER/FXEN, 25 MDC, 26 MDIO, 27 NC, 28 RTSET, 29 AGND, 30 TPRX-, 31 TPRX+, 32 PWFBOUT, 33 TPTX-, 34 TPTX+, 35 AGND, 36 AVDD33, 37 ANE, 38 DUPLEX, 39 SPEED, 40 RPTR, 41 LDPS, 42 ~{RESETB}, 43 ISOLATE, 44 MII/SNIB/RTT3, 45 DGND, 46 X1, 47 X2, 48 DVDD33
text: RTL8201BL; Physical layer

## SN65LBC031
designator U?
CAN Tranceiver
footprint DIP8
pins: 1 ~{TX}, 2 GND, 3 VCC, 4 ~{RX}, 5 VREF, 6 CANL, 7 CANH, 8 ASC

## SP3221E
designator U?
RS232 Tranceiver
footprint SO-16
pins: 1 ~{EN}, 2 C1+, 3 V+, 4 C1-, 5 C2+, 6 C2-, 7 V-, 8 R1IN (in), 9 R1OUT (out), 10 NC, 11 T1IN (in), 12 NC, 13 T1OUT (out), 14 GND, 15 VCC, 16 ~{SHDN} (in)

## SW-PB
designator BT?
Reset Butten
footprint SWB_4
pins: 1, 2

## TIL117
designator U?
Optoisolator
footprint DIP6
pins: 1, 2, 3, 4 E, 5 C, 6

## TLC5618
designator U?
DA Converter
footprint DIP8
footprint SO-G8
pins: 1 DIN, 2 SLK, 3 ~{CS}, 4 OUTA, 5 AGND, 6 REFIN, 7 OUTB, 8 VDD

## TLE2426
designator U?
Virtual GND
footprint TO-92A
pins: 1 OUT, 2 COM, 3 IN

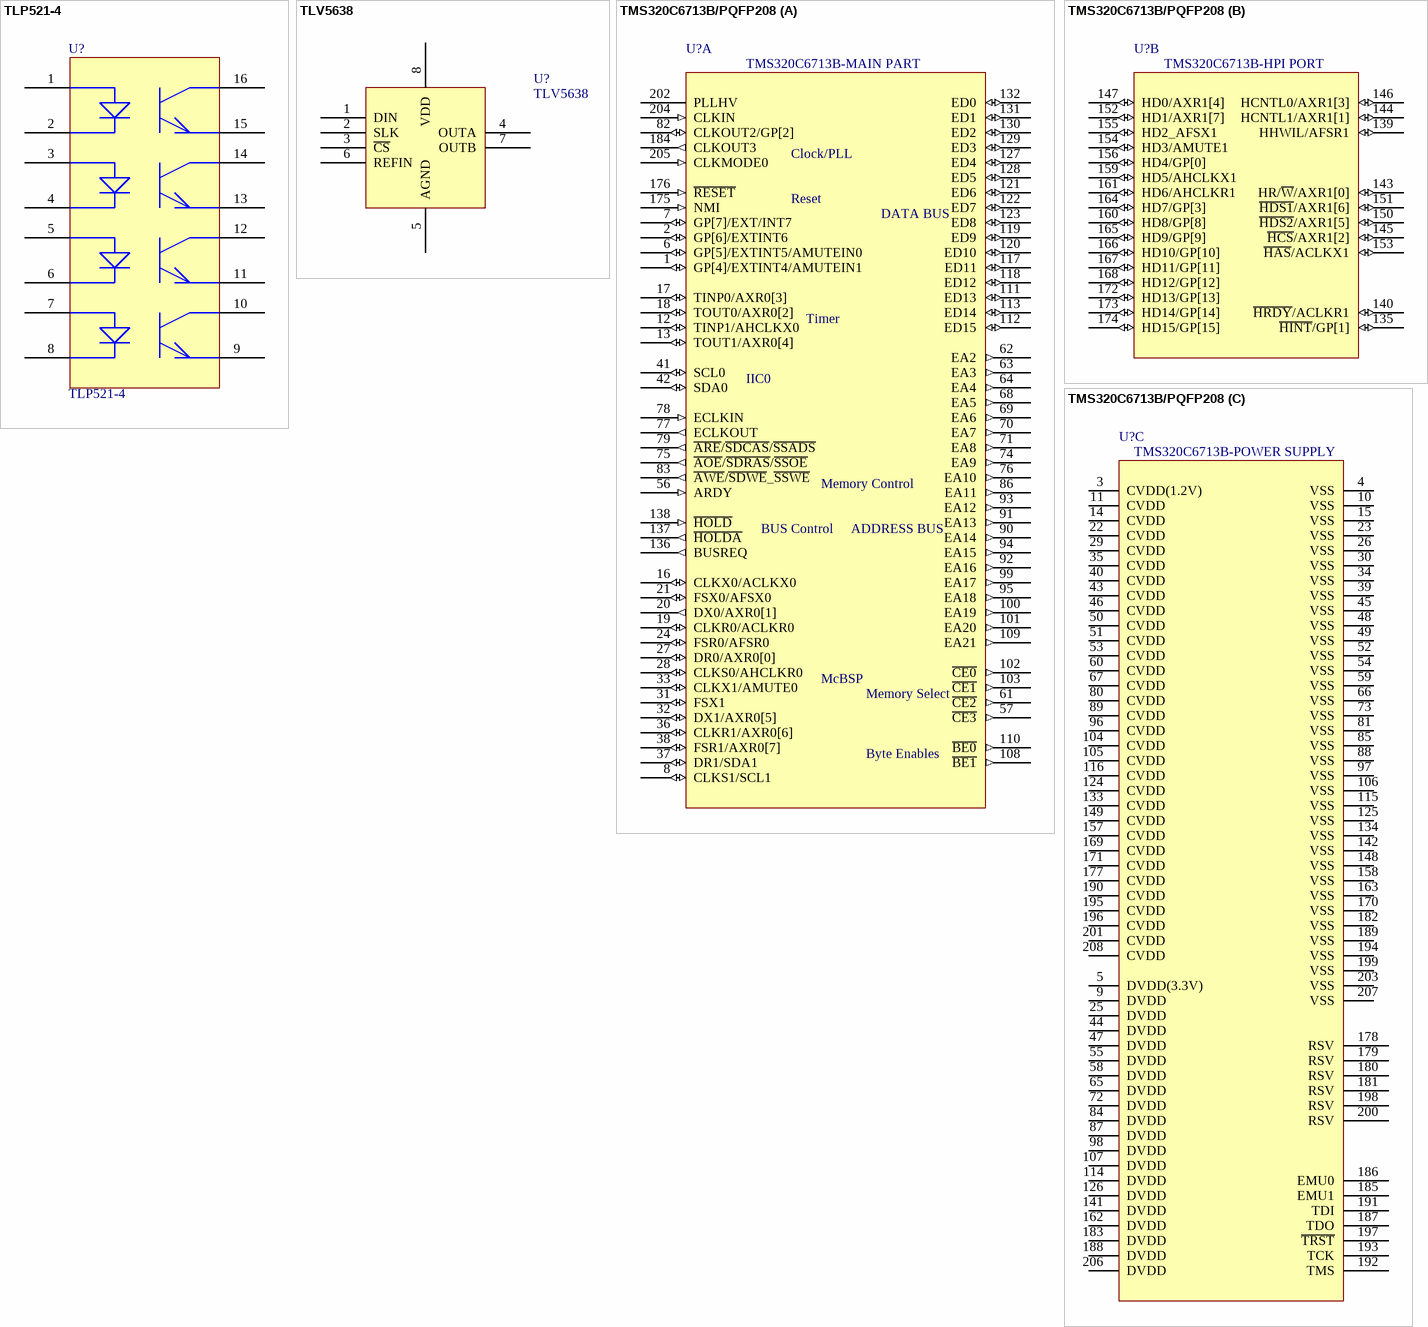
[diagram p3: symbols TLP521-4 to TMS320C6713B/PQFP208]

## TLP521-4
designator U?
Optoisolator
footprint DIP16
pins: 1, 2, 3, 4, 5, 6, 7, 8, 9, 10, 11, 12, 13, 14, 15, 16

## TLV5638
designator U?
2.7V-5V Low Power Dual DA Converter
footprint DIP8
footprint SO-G8
pins: 1 DIN, 2 SLK, 3 ~{CS}, 4 OUTA, 5 AGND, 6 REFIN, 7 OUTB, 8 VDD

## TMS320C6713B/PQFP208
designator U?  (value not drawn)
TI's 32bit floating point DSP with PYP 208-PIN PowerPAD. PLASTIC QUAD FLATPACK (PQFP); Manufacturer: Xilinx; Class I: Programmable Logic Device; Class II: XC9500; Published: 17-Jul-2002; Datasheet: Latest Revision: 19-Mar-2001; Package Reference: PQ208; Publisher: Altium Limited
footprint F-QFP28x28-G208/Y1.8N
part A pins: 1 GP[4]/EXTINT4/AMUTEIN1 (io), 2 GP[6]/EXTINT6 (io), 6 GP[5]/EXTINT5/AMUTEIN0 (io), 7 GP[7]/EXT/INT7 (io), 8 CLKS1/SCL1 (io), 12 TINP1/AHCLKX0 (io), 13 TOUT1/AXR0[4] (io), 16 CLKX0/ACLKX0 (io), 17 TINP0/AXR0[3] (io), 18 TOUT0/AXR0[2] (io), 19 CLKR0/ACLKR0 (io), 20 DX0/AXR0[1] (out), 21 FSX0/AFSX0 (io), 24 FSR0/AFSR0 (io), 27 DR0/AXR0[0] (io), 28 CLKS0/AHCLKR0 (io), 31 FSX1 (io), 32 DX1/AXR0[5] (io), 33 CLKX1/AMUTE0 (io), 36 CLKR1/AXR0[6] (io), 37 DR1/SDA1 (io), 38 FSR1/AXR0[7] (io), 41 SCL0 (io), 42 SDA0 (io), 56 ARDY (in), 57 ~{CE3} (out), 61 ~{CE2} (out), 62 EA2 (out), 63 EA3 (out), 64 EA4 (out), 68 EA5 (out), 69 EA6 (out), 70 EA7 (out), 71 EA8 (out), 74 EA9 (out), 75 ~{AOE}/~{SDRAS}/~{SSOE} (out), 76 EA10 (out), 77 ECLKOUT (out), 78 ECLKIN (in), 79 ~{ARE}/~{SDCAS}/~{SSADS} (out), 82 CLKOUT2/GP[2] (io), 83 ~{AWE}/~{SDWE}_~{SSWE} (out), 86 EA11 (out), 90 EA14 (out), 91 EA13 (out), 92 EA16 (out), 93 EA12 (out), 94 EA15 (out), 95 EA18 (out), 99 EA17 (out), 100 EA19 (out), 101 EA20 (out), 102 ~{CE0} (out), 103 ~{CE1} (out), 108 ~{BE1} (out), 109 EA21 (out), 110 ~{BE0} (out), 111 ED13 (io), 112 ED15 (io), 113 ED14 (io), 117 ED11 (io), 118 ED12 (io), 119 ED9 (io), 120 ED10 (io), 121 ED6 (io), 122 ED7 (io), 123 ED8 (io), 127 ED4 (io), 128 ED5 (io), 129 ED3 (io), 130 ED2 (io), 131 ED1 (io), 132 ED0 (io), 136 BUSREQ (out), 137 ~{HOLDA} (out), 138 ~{HOLD} (in), 175 NMI (in), 176 ~{RESET} (in), 184 CLKOUT3 (out), 202 PLLHV, 204 CLKIN (in), 205 CLKMODE0 (in)
part B pins: 135 ~{HINT}/GP[1] (io), 139 HHWIL/AFSR1 (io), 140 ~{HRDY}/ACLKR1 (io), 143 HR/~{W}/AXR1[0] (io), 144 HCNTL1/AXR1[1] (io), 145 ~{HCS}/AXR1[2] (io), 146 HCNTL0/AXR1[3] (io), 147 HD0/AXR1[4] (io), 150 ~{HDS2}/AXR1[5] (io), 151 ~{HDS1}/AXR1[6] (io), 152 HD1/AXR1[7] (io), 153 ~{HAS}/ACLKX1 (io), 154 HD3/AMUTE1 (io), 155 HD2_AFSX1 (io), 156 HD4/GP[0] (io), 159 HD5/AHCLKX1 (io), 160 HD8/GP[8] (io), 161 HD6/AHCLKR1 (io), 164 HD7/GP[3] (io), 165 HD9/GP[9] (io), 166 HD10/GP[10] (io), 167 HD11/GP[11] (io), 168 HD12/GP[12] (io), 172 HD13/GP[13] (io), 173 HD14/GP[14] (io), 174 HD15/GP[15] (io)
part C pins: 3 CVDD(1.2V) (power), 4 VSS (power), 5 DVDD(3.3V) (power), 9 DVDD (power), 10 VSS (power), 11 CVDD (power), 14 CVDD (power), 15 VSS (power), 22 CVDD (power), 23 VSS (power), 25 DVDD (power), 26 VSS (power), 29 CVDD (power), 30 VSS (power), 34 VSS (power), 35 CVDD (power), 39 VSS (power), 40 CVDD (power), 43 CVDD (power), 44 DVDD (power), 45 VSS (power), 46 CVDD (power), 47 DVDD (power), 48 VSS (power), 49 VSS (power), 50 CVDD (power), 51 CVDD (power), 52 VSS (power), 53 CVDD (power), 54 VSS (power), 55 DVDD (power), 58 DVDD (power), 59 VSS (power), 60 CVDD (power), 65 DVDD (power), 66 VSS (power), 67 CVDD (power), 72 DVDD (power), 73 VSS (power), 80 CVDD (power), 81 VSS (power), 84 DVDD (power), 85 VSS (power), 87 DVDD (power), 88 VSS (power), 89 CVDD (power), 96 CVDD (power), 97 VSS (power), 98 DVDD (power), 104 CVDD (power), 105 CVDD (power), 106 VSS (power), 107 DVDD (power), 114 DVDD (power), 115 VSS (power), 116 CVDD (power), 124 CVDD (power), 125 VSS (power), 126 DVDD (power), 133 CVDD (power), 134 VSS (power), 141 DVDD (power), 142 VSS (power), 148 VSS (power), 149 CVDD (power), 157 CVDD (power), 158 VSS (power), 162 DVDD (power), 163 VSS (power), 169 CVDD (power), 170 VSS (power), 171 CVDD (power), 177 CVDD (power), 178 RSV, 179 RSV, 180 RSV, 181 RSV, 182 VSS (power), 183 DVDD (power), 185 EMU1, 186 EMU0, 187 TDO, 188 DVDD (power), 189 VSS (power), 190 CVDD (power), 191 TDI, 192 TMS, 193 TCK, 194 VSS (power), 195 CVDD (power), 196 CVDD (power), 197 ~{TRST}, 198 RSV, 199 VSS (power), 200 RSV, 201 CVDD (power), 203 VSS (power), 206 DVDD (power), 207 VSS (power), 208 CVDD (power)
part A text: TMS320C6713B-MAIN PART; Clock/PLL; Reset; DATA BUS; Timer; IIC0; Memory Control; BUS Control; ADDRESS BUS; McBSP; Memory Select; Byte Enables
part B text: TMS320C6713B-HPI PORT
part C text: TMS320C6713B-POWER SUPPLY

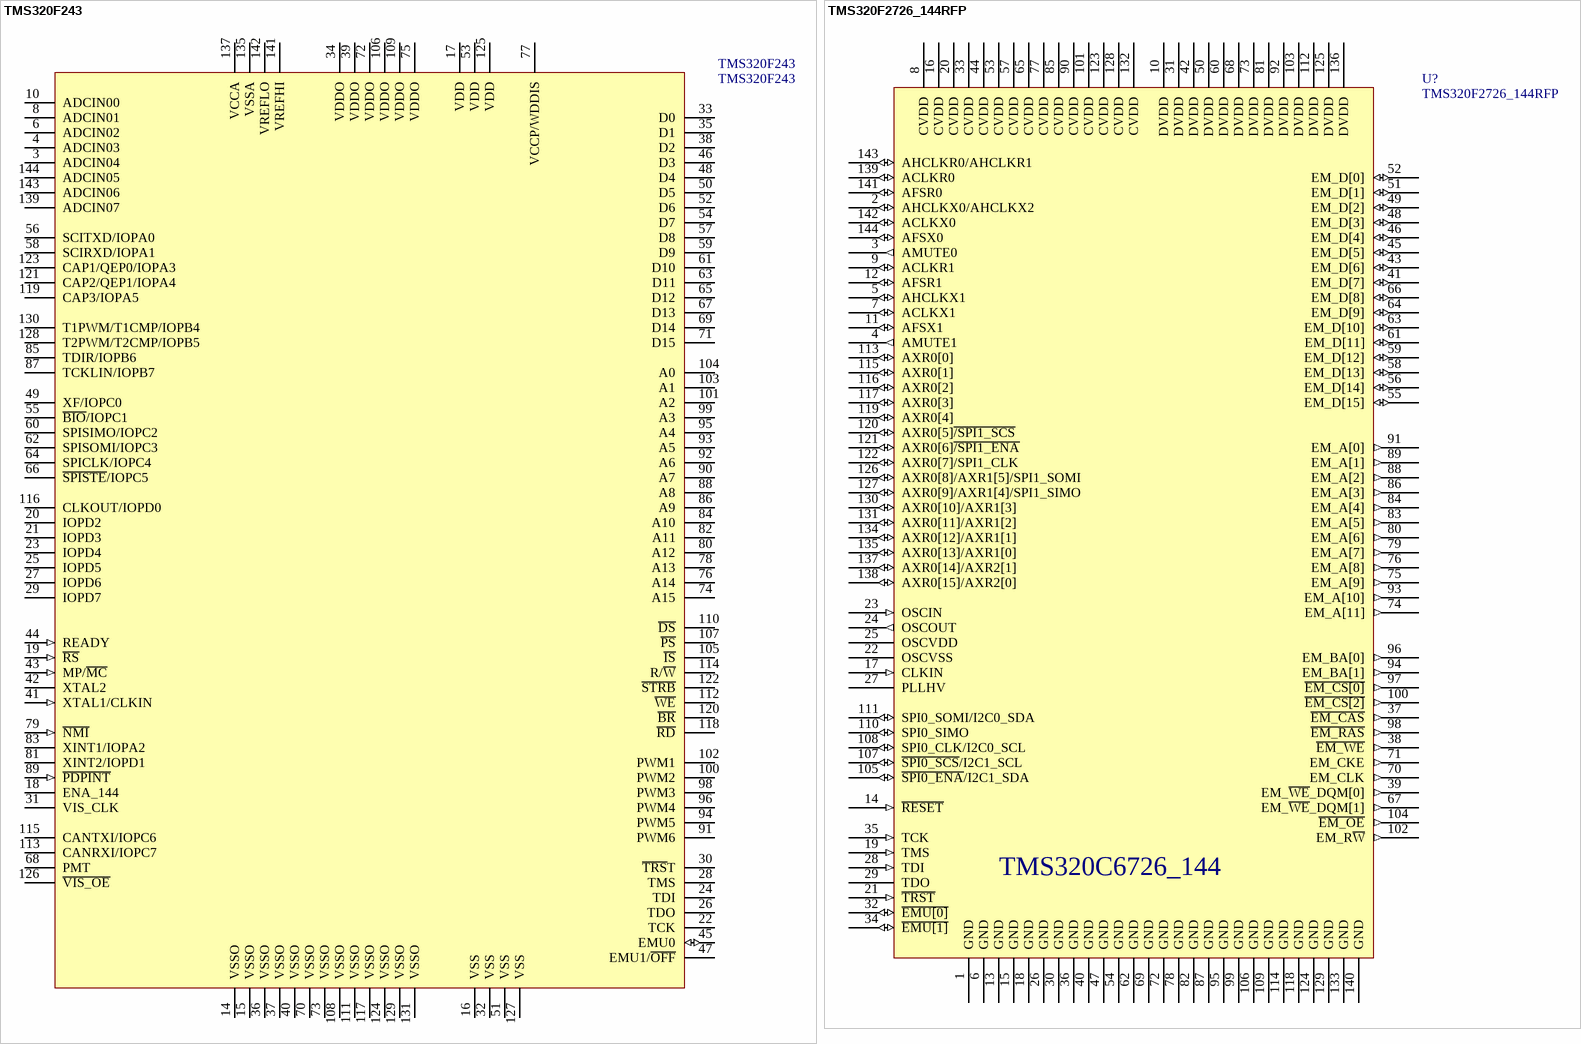
[diagram p4: symbols TMS320F243 to TMS320F2726_144RFP]

## TMS320F243
designator TMS320F243
TI's 16 bit DSP
footprint SQFP20X20-144(N)
pins: 1 NC hidden to NC, 2 NC hidden to NC, 3 ADCIN04, 4 ADCIN03, 5 NC hidden to NC, 6 ADCIN02, 7 NC hidden to NC, 8 ADCIN01, 9 NC hidden to NC, 10 ADCIN00, 11 NC hidden to NC, 12 DNC hidden to DNC, 13 NC hidden to NC, 14 VSSO (power), 15 VSSO (power), 16 VSS (power), 17 VDD (power), 18 ENA_144, 19 ~{RS} (in), 20 IOPD2, 21 IOPD3, 22 TCK, 23 IOPD4, 24 TDI, 25 IOPD5, 26 TDO, 27 IOPD6, 28 TMS, 29 IOPD7, 30 ~{TRS}T, 31 VIS_CLK, 32 VSS (power), 33 D0, 34 VDDO (power), 35 D1, 36 VSSO (power), 37 VSSO (power), 38 D2, 39 VDDO (power), 40 VSSO (power), 41 XTAL1/CLKIN (in), 42 XTAL2, 43 MP/~{MC} (in), 44 READY (in), 45 EMU0 (io), 46 D3, 47 EMU1/~{OFF}, 48 D4, 49 XF/IOPC0, 50 D5, 51 VSS (power), 52 D6, 53 VDD (power), 54 D7, 55 ~{BIO}/IOPC1, 56 SCITXD/IOPA0, 57 D8, 58 SCIRXD/IOPA1, 59 D9, 60 SPISIMO/IOPC2, 61 D10, 62 SPISOMI/IOPC3, 63 D11, 64 SPICLK/IOPC4, 65 D12, 66 ~{SPISTE}/IOPC5, 67 D13, 68 PMT, 69 D14, 70 VSSO (power), 71 D15, 72 VDDO (power), 73 VSSO (power), 74 A15, 75 VDDO, 76 A14, 77 VCCP/WDDIS, 78 A13 (hiz), 79 ~{NMI} (in), 80 A12 (hiz), 81 XINT2/IOPD1, 82 A11 (hiz), 83 XINT1/IOPA2, 84 A10 (hiz), 85 TDIR/IOPB6, 86 A9 (hiz), 87 TCKLIN/IOPB7, 88 A8 (hiz), 89 ~{PDPINT} (in), 90 A7 (hiz), 91 PWM6, 92 A6 (hiz), 93 A5 (hiz), 94 PWM5, 95 A4 (hiz), 96 PWM4, 97 DNC hidden to DNC, 98 PWM3, 99 A3 (hiz), 100 PWM2, 101 A2 (hiz), 102 PWM1, 103 A1 (hiz), 104 A0 (hiz), 105 ~{IS}, 106 VDDO (power), 107 ~{PS}, 108 VSSO (power), 109 VDDO (power), 110 ~{DS}, 111 VSSO, 112 ~{WE}, 113 CANRXI/IOPC7, 114 R/~{W}, 115 CANTXI/IOPC6, 116 CLKOUT/IOPD0, 117 VSSO, 118 ~{RD}, 119 CAP3/IOPA5, 120 ~{BR}, 121 CAP2/QEP1/IOPA4, 122 ~{STRB}, 123 CAP1/QEP0/IOPA3, 124 VSSO, 125 VDD (power), 126 ~{VIS_OE}, 127 VSS (power), 128 T2PWM/T2CMP/IOPB5, 129 VSSO, 130 T1PWM/T1CMP/IOPB4, 131 VSSO, 132 NC hidden to NC, 133 NC hidden to NC, 134 NC hidden to NC, 135 VSSA, 136 NC hidden to NC, 137 VCCA, 138 NC hidden to NC, 139 ADCIN07, 140 NC hidden to NC, 141 VREFHI (power), 142 VREFLO (hiz), 143 ADCIN06, 144 ADCIN05

## TMS320F2726_144RFP
designator U?
footprint TQFP-144
pins: 1 GND (power), 2 AHCLKX0/AHCLKX2 (io), 3 AMUTE0 (out), 4 AMUTE1 (out), 5 AHCLKX1 (io), 6 GND (power), 7 ACLKX1 (io), 8 CVDD (power), 9 ACLKR1 (io), 10 DVDD (power), 11 AFSX1 (io), 12 AFSR1 (io), 13 GND (power), 14 ~{RESET} (in), 15 GND (power), 16 CVDD (power), 17 CLKIN (in), 18 GND (power), 19 TMS (in), 20 CVDD (power), 21 ~{TRST} (in), 22 OSCVSS (power), 23 OSCIN (in), 24 OSCOUT (out), 25 OSCVDD (power), 26 GND (power), 27 PLLHV (power), 28 TDI (in), 29 TDO (hiz), 30 GND (power), 31 DVDD (power), 32 ~{EMU[0]} (io), 33 CVDD (power), 34 ~{EMU[1]} (io), 35 TCK (in), 36 GND (power), 37 ~{EM_CAS} (out), 38 ~{EM_WE} (out), 39 EM_~{WE}_DQM[0] (out), 40 GND (power), 41 EM_D[7] (io), 42 DVDD (power), 43 EM_D[6] (io), 44 CVDD (power), 45 EM_D[5] (io), 46 EM_D[4] (io), 47 GND (power), 48 EM_D[3] (io), 49 EM_D[2] (io), 50 DVDD (power), 51 EM_D[1] (io), 52 EM_D[0] (io), 53 CVDD (power), 54 GND (power), 55 EM_D[15] (io), 56 EM_D[14] (io), 57 CVDD (power), 58 EM_D[13] (io), 59 EM_D[12] (io), 60 DVDD (power), 61 EM_D[11] (io), 62 GND (power), 63 EM_D[10] (io), 64 EM_D[9] (io), 65 CVDD (power), 66 EM_D[8] (io), 67 EM_~{WE}_DQM[1] (out), 68 DVDD (power), 69 GND (power), 70 EM_CLK (out), 71 EM_CKE (out), 72 GND (power), 73 DVDD (power), 74 EM_A[11] (out), 75 EM_A[9] (out), 76 EM_A[8] (out), 77 CVDD (power), 78 GND (power), 79 EM_A[7] (out), 80 EM_A[6] (out), 81 DVDD (power), 82 GND (power), 83 EM_A[5] (out), 84 EM_A[4] (out), 85 CVDD (power), 86 EM_A[3] (out), 87 GND (power), 88 EM_A[2] (out), 89 EM_A[1] (out), 90 CVDD (power), 91 EM_A[0] (out), 92 DVDD (power), 93 EM_A[10] (out), 94 EM_BA[1] (out), 95 GND (power), 96 EM_BA[0] (out), 97 ~{EM_CS[0]} (out), 98 ~{EM_RAS} (out), 99 GND (power), 100 ~{EM_CS[2]} (out), 101 CVDD (power), 102 EM_R~{W} (out), 103 DVDD (power), 104 ~{EM_OE} (out), 105 ~{SPI0_ENA}/I2C1_SDA (io), 106 GND (power), 107 ~{SPI0_SCS}/I2C1_SCL (io), 108 SPI0_CLK/I2C0_SCL (io), 109 GND (power), 110 SPI0_SIMO (io), 111 SPI0_SOMI/I2C0_SDA (io), 112 DVDD (power), 113 AXR0[0] (io), 114 GND (power), 115 AXR0[1] (io), 116 AXR0[2] (io), 117 AXR0[3] (io), 118 GND (power), 119 AXR0[4] (io), 120 AXR0[5]~{/SPI1_SCS} (io), 121 AXR0[6]~{/SPI1_ENA} (io), 122 AXR0[7]/SPI1_CLK (io), 123 CVDD (power), 124 GND (power), 125 DVDD (power), 126 AXR0[8]/AXR1[5]/SPI1_SOMI (io), 127 AXR0[9]/AXR1[4]/SPI1_SIMO (io), 128 CVDD (power), 129 GND (oe), 130 AXR0[10]/AXR1[3] (io), 131 AXR0[11]/AXR1[2] (io), 132 CVDD (power), 133 GND (power), 134 AXR0[12]/AXR1[1] (io), 135 AXR0[13]/AXR1[0] (io), 136 DVDD (power), 137 AXR0[14]/AXR2[1] (io), 138 AXR0[15]/AXR2[0] (io), 139 ACLKR0 (io), 140 GND (power), 141 AFSR0 (io), 142 ACLKX0 (io), 143 AHCLKR0/AHCLKR1 (io), 144 AFSX0 (io)
text: TMS320C6726_144

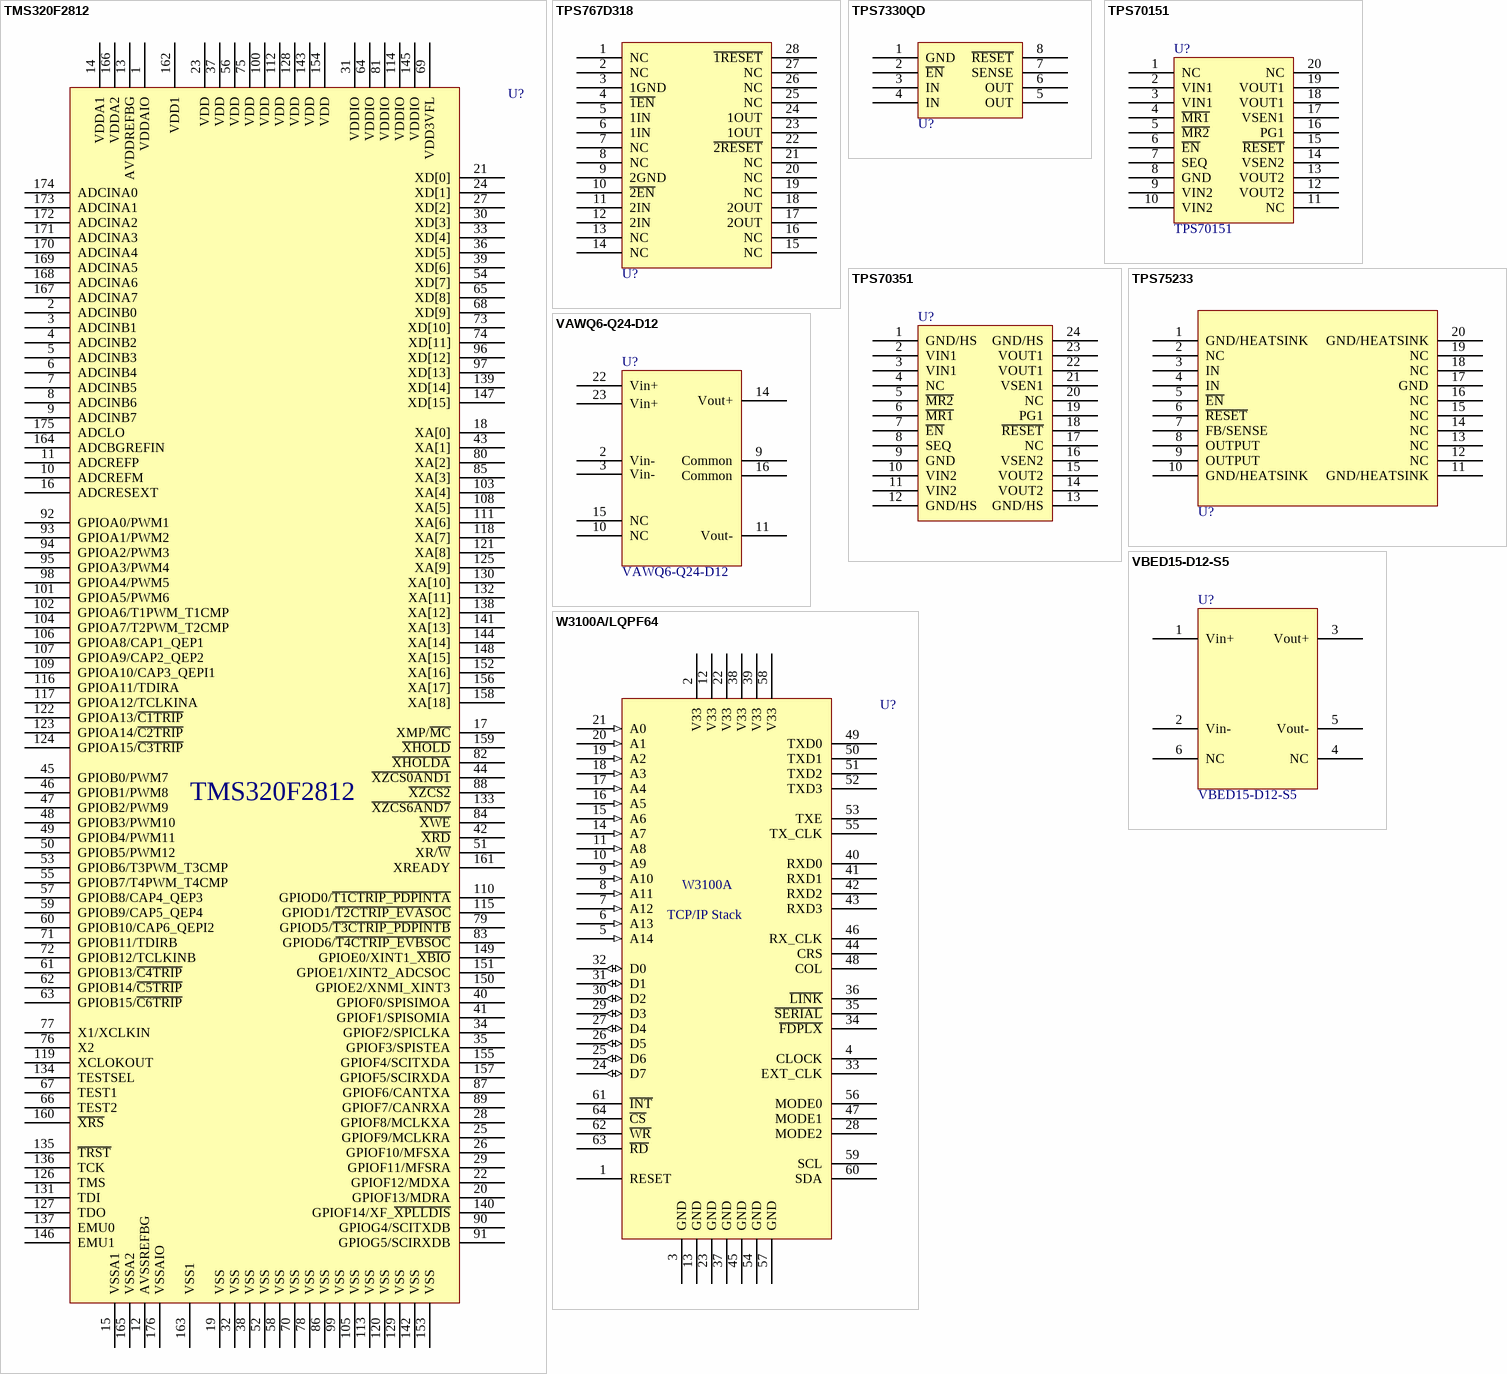
[diagram p5: symbols TMS320F2812 to W3100A/LQPF64]

## TMS320F2812
designator U?  (value not drawn)
TI's 32 bit fixed flash DSP
footprint SQFP24X24-176-2812
pins: 1 VDDAIO, 2 ADCINB0, 3 ADCINB1, 4 ADCINB2, 5 ADCINB3, 6 ADCINB4, 7 ADCINB5, 8 ADCINB6, 9 ADCINB7, 10 ADCREFM, 11 ADCREFP, 12 AVSSREFBG, 13 AVDDREFBG, 14 VDDA1, 15 VSSA1, 16 ADCRESEXT, 17 XMP/~{MC}, 18 XA[0], 19 VSS, 20 GPIOF13/MDRA, 21 XD[0], 22 GPIOF12/MDXA, 23 VDD, 24 XD[1], 25 GPIOF9/MCLKRA, 26 GPIOF10/MFSXA, 27 XD[2], 28 GPIOF8/MCLKXA, 29 GPIOF11/MFSRA, 30 XD[3], 31 VDDIO, 32 VSS, 33 XD[4], 34 GPIOF2/SPICLKA, 35 GPIOF3/SPISTEA, 36 XD[5], 37 VDD, 38 VSS, 39 XD[6], 40 GPIOF0/SPISIMOA, 41 GPIOF1/SPISOMIA, 42 ~{XRD}, 43 XA[1], 44 ~{XZCS0AND1}, 45 GPIOB0/PWM7, 46 GPIOB1/PWM8, 47 GPIOB2/PWM9, 48 GPIOB3/PWM10, 49 GPIOB4/PWM11, 50 GPIOB5/PWM12, 51 XR/~{W}, 52 VSS, 53 GPIOB6/T3PWM_T3CMP, 54 XD[7], 55 GPIOB7/T4PWM_T4CMP, 56 VDD, 57 GPIOB8/CAP4_QEP3, 58 VSS, 59 GPIOB9/CAP5_QEP4, 60 GPIOB10/CAP6_QEPI2, 61 GPIOB13/~{C4TRIP}, 62 GPIOB14/~{C5TRIP}, 63 GPIOB15/~{C6TRIP}, 64 VDDIO, 65 XD[8], 66 TEST2, 67 TEST1, 68 XD[9], 69 VDD3VFL, 70 VSS, 71 GPIOB11/TDIRB, 72 GPIOB12/TCLKINB, 73 XD[10], 74 XD[11], 75 VDD, 76 X2, 77 X1/XCLKIN, 78 VSS, 79 GPIOD5/~{T3CTRIP_PDPINTB}, 80 XA[2], 81 VDDIO, 82 ~{XHOLDA}, 83 GPIOD6/~{T4CTRIP_EVBSOC}, 84 ~{XWE}, 85 XA[3], 86 VSS, 87 GPIOF6/CANTXA, 88 ~{XZCS2}, 89 GPIOF7/CANRXA, 90 GPIOG4/SCITXDB, 91 GPIOG5/SCIRXDB, 92 GPIOA0/PWM1, 93 GPIOA1/PWM2, 94 GPIOA2/PWM3, 95 GPIOA3/PWM4, 96 XD[12], 97 XD[13], 98 GPIOA4/PWM5, 99 VSS, 100 VDD, 101 GPIOA5/PWM6, 102 GPIOA6/T1PWM_T1CMP, 103 XA[4], 104 GPIOA7/T2PWM_T2CMP, 105 VSS, 106 GPIOA8/CAP1_QEP1, 107 GPIOA9/CAP2_QEP2, 108 XA[5], 109 GPIOA10/CAP3_QEPI1, 110 GPIOD0/~{T1CTRIP_PDPINTA}, 111 XA[6], 112 VDD, 113 VSS, 114 VDDIO, 115 GPIOD1/~{T2CTRIP_EVASOC}, 116 GPIOA11/TDIRA, 117 GPIOA12/TCLKINA, 118 XA[7], 119 XCLOKOUT, 120 VSS, 121 XA[8], 122 GPIOA13/~{C1TRIP}, 123 GPIOA14/~{C2TRIP}, 124 GPIOA15/~{C3TRIP}, 125 XA[9], 126 TMS, 127 TDO, 128 VDD, 129 VSS, 130 XA[10], 131 TDI, 132 XA[11], 133 ~{XZCS6AND7}, 134 TESTSEL, 135 ~{TRST}, 136 TCK, 137 EMU0, 138 XA[12], 139 XD[14], 140 GPIOF14/XF_~{XPLLDIS}, 141 XA[13], 142 VSS, 143 VDD, 144 XA[14], 145 VDDIO, 146 EMU1, 147 XD[15], 148 XA[15], 149 GPIOE0/XINT1_~{XBIO}, 150 GPIOE2/XNMI_XINT3, 151 GPIOE1/XINT2_ADCSOC, 152 XA[16], 153 VSS, 154 VDD, 155 GPIOF4/SCITXDA, 156 XA[17], 157 GPIOF5/SCIRXDA, 158 XA[18], 159 ~{XHOLD}, 160 ~{XRS}, 161 XREADY, 162 VDD1, 163 VSS1, 164 ADCBGREFIN, 165 VSSA2, 166 VDDA2, 167 ADCINA7, 168 ADCINA6, 169 ADCINA5, 170 ADCINA4, 171 ADCINA3, 172 ADCINA2, 173 ADCINA1, 174 ADCINA0, 175 ADCLO, 176 VSSAIO

## TPS767D318
designator U?  (value not drawn)
Power Supply
footprint TSSOP28
pins: 1 NC, 2 NC, 3 1GND, 4 ~{1EN}, 5 1IN, 6 1IN, 7 NC, 8 NC, 9 2GND, 10 ~{2EN}, 11 2IN, 12 2IN, 13 NC, 14 NC, 15 NC, 16 NC, 17 2OUT, 18 2OUT, 19 NC, 20 NC, 21 NC, 22 ~{2RESET}, 23 1OUT, 24 1OUT, 25 NC, 26 NC, 27 NC, 28 ~{1RESET}

## TPS7330QD
designator U?  (value not drawn)
3.0V Power Power Supply
footprint SO-8
pins: 1 GND, 2 ~{EN}, 3 IN, 4 IN, 5 OUT, 6 OUT, 7 SENSE, 8 ~{RESET}

## TPS70151
designator U?
Power Supply
footprint TSSOP20
pins: 1 NC, 2 VIN1, 3 VIN1, 4 ~{MR1}, 5 ~{MR2}, 6 ~{EN}, 7 SEQ, 8 GND, 9 VIN2, 10 VIN2, 11 NC, 12 VOUT2, 13 VOUT2, 14 VSEN2, 15 ~{RESET}, 16 PG1, 17 VSEN1, 18 VOUT1, 19 VOUT1, 20 NC

## TPS70351
designator U?
Power Supply
footprint PowerPAD24
pins: 1 GND/HS, 2 VIN1, 3 VIN1, 4 NC, 5 ~{MR2}, 6 ~{MR1}, 7 ~{EN}, 8 SEQ, 9 GND, 10 VIN2, 11 VIN2, 12 GND/HS, 13 GND/HS, 14 VOUT2, 15 VOUT2, 16 VSEN2, 17 NC, 18 ~{RESET}, 19 PG1, 20 NC, 21 VSEN1, 22 VOUT1, 23 VOUT1, 24 GND/HS

## TPS75233
designator U?  (value not drawn)
2A, 3.3V, LDO power supply
footprint TSSOP-20
pins: 1 GND/HEATSINK, 2 NC, 3 IN, 4 IN, 5 ~{EN}, 6 ~{RESET}, 7 FB/SENSE, 8 OUTPUT, 9 OUTPUT, 10 GND/HEATSINK, 11 GND/HEATSINK, 12 NC, 13 NC, 14 NC, 15 NC, 16 NC, 17 GND, 18 NC, 19 NC, 20 GND/HEATSINK

## VAWQ6-Q24-D12
designator U?
DC/DC Converter, 9-36V input, dual 12V output
footprint VAWQ6-Q24-D12
pins: 2 Vin-, 3 Vin-, 9 Common, 10 NC, 11 Vout-, 14 Vout+, 15 NC, 16 Common, 22 Vin+, 23 Vin+

## VBED15-D12-S5
designator U?
15W,  9-18V input, 5V single output DC/DC converter
footprint VBED15-D12-S5
pins: 1 Vin+, 2 Vin-, 3 Vout+, 4 NC, 5 Vout-, 6 NC

## W3100A/LQPF64
designator U?  (value not drawn)
Hardware TCP/IP Stack
footprint QFP-64
pins: 1 RESET, 2 V33 (power), 3 GND (power), 4 CLOCK, 5 A14 (in), 6 A13 (in), 7 A12 (in), 8 A11 (in), 9 A10 (in), 10 A9 (in), 11 A8 (in), 12 V33 (power), 13 GND (power), 14 A7 (in), 15 A6 (in), 16 A5 (in), 17 A4 (in), 18 A3 (in), 19 A2 (in), 20 A1 (in), 21 A0 (in), 22 V33 (power), 23 GND (power), 24 D7 (io), 25 D6 (io), 26 D5 (io), 27 D4 (io), 28 MODE2, 29 D3 (io), 30 D2 (io), 31 D1 (io), 32 D0 (io), 33 EXT_CLK, 34 ~{FDPLX}, 35 ~{SERIAL}, 36 ~{LINK}, 37 GND (power), 38 V33 (power), 39 V33 (power), 40 RXD0, 41 RXD1, 42 RXD2, 43 RXD3, 44 CRS, 45 GND (power), 46 RX_CLK, 47 MODE1, 48 COL, 49 TXD0, 50 TXD1, 51 TXD2, 52 TXD3, 53 TXE, 54 GND (power), 55  TX_CLK, 56 MODE0, 57 GND (power), 58 V33 (power), 59 SCL, 60 SDA, 61 ~{INT}, 62 ~{WR}, 63 ~{RD}, 64 ~{CS}
text: W3100A; TCP/IP Stack

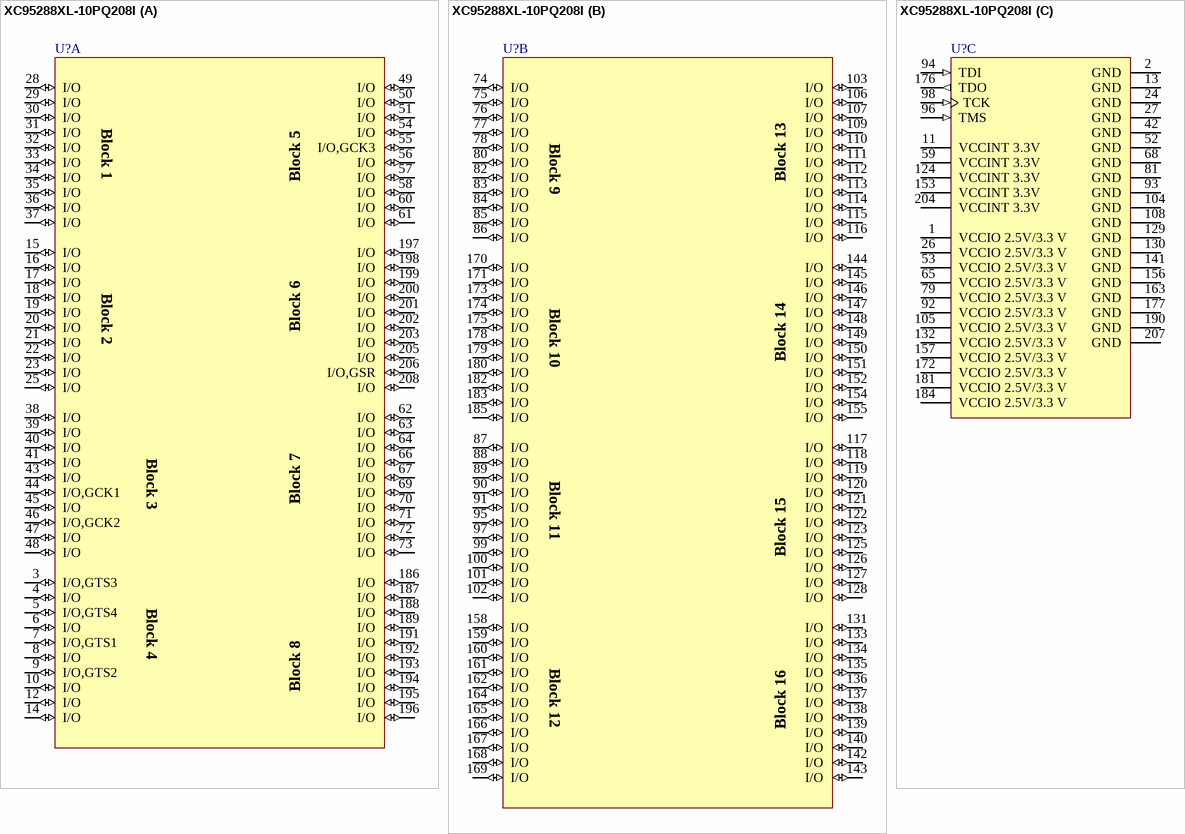
[diagram p6: symbol XC95288XL-10PQ208I]

## XC95288XL-10PQ208I
designator U?
FastFLASH XC95288XL High-Performance CPLD; Manufacturer: Xilinx; Class I: Programmable Logic Device; Class II: XC9500; Published: 17-Jul-2002; Datasheet: Latest Revision: 19-Mar-2001; Package Reference: PQ208; Publisher: Altium Limited
footprint F-QFP28x28-G208/Y1.8N
part A pins: 3 I/O,GTS3 (io), 4 I/O (io), 5 I/O,GTS4 (io), 6 I/O (io), 7 I/O,GTS1 (io), 8 I/O (io), 9 I/O,GTS2 (io), 10 I/O (io), 12 I/O (io), 14 I/O (io), 15 I/O (io), 16 I/O (io), 17 I/O (io), 18 I/O (io), 19 I/O (io), 20 I/O (io), 21 I/O (io), 22 I/O (io), 23 I/O (io), 25 I/O (io), 28 I/O (io), 29 I/O (io), 30 I/O (io), 31 I/O (io), 32 I/O (io), 33 I/O (io), 34 I/O (io), 35 I/O (io), 36 I/O (io), 37 I/O (io), 38 I/O (io), 39 I/O (io), 40 I/O (io), 41 I/O (io), 43 I/O (io), 44 I/O,GCK1 (io), 45 I/O (io), 46 I/O,GCK2 (io), 47 I/O (io), 48 I/O (io), 49 I/O (io), 50 I/O (io), 51 I/O (io), 54 I/O (io), 55 I/O,GCK3 (io), 56 I/O (io), 57 I/O (io), 58 I/O (io), 60 I/O (io), 61 I/O (io), 62 I/O (io), 63 I/O (io), 64 I/O (io), 66 I/O (io), 67 I/O (io), 69 I/O (io), 70 I/O (io), 71 I/O (io), 72 I/O (io), 73 I/O (io), 186 I/O (io), 187 I/O (io), 188 I/O (io), 189 I/O (io), 191 I/O (io), 192 I/O (io), 193 I/O (io), 194 I/O (io), 195 I/O (io), 196 I/O (io), 197 I/O (io), 198 I/O (io), 199 I/O (io), 200 I/O (io), 201 I/O (io), 202 I/O (io), 203 I/O (io), 205 I/O (io), 206 I/O,GSR (io), 208 I/O (io)
part B pins: 74 I/O (io), 75 I/O (io), 76 I/O (io), 77 I/O (io), 78 I/O (io), 80 I/O (io), 82 I/O (io), 83 I/O (io), 84 I/O (io), 85 I/O (io), 86 I/O (io), 87 I/O (io), 88 I/O (io), 89 I/O (io), 90 I/O (io), 91 I/O (io), 95 I/O (io), 97 I/O (io), 99 I/O (io), 100 I/O (io), 101 I/O (io), 102 I/O (io), 103 I/O (io), 106 I/O (io), 107 I/O (io), 109 I/O (io), 110 I/O (io), 111 I/O (io), 112 I/O (io), 113 I/O (io), 114 I/O (io), 115 I/O (io), 116 I/O (io), 117 I/O (io), 118 I/O (io), 119 I/O (io), 120 I/O (io), 121 I/O (io), 122 I/O (io), 123 I/O (io), 125 I/O (io), 126 I/O (io), 127 I/O (io), 128 I/O (io), 131 I/O (io), 133 I/O (io), 134 I/O (io), 135 I/O (io), 136 I/O (io), 137 I/O (io), 138 I/O (io), 139 I/O (io), 140 I/O (io), 142 I/O (io), 143 I/O (io), 144 I/O (io), 145 I/O (io), 146 I/O (io), 147 I/O (io), 148 I/O (io), 149 I/O (io), 150 I/O (io), 151 I/O (io), 152 I/O (io), 154 I/O (io), 155 I/O (io), 158 I/O (io), 159 I/O (io), 160 I/O (io), 161 I/O (io), 162 I/O (io), 164 I/O (io), 165 I/O (io), 166 I/O (io), 167 I/O (io), 168 I/O (io), 169 I/O (io), 170 I/O (io), 171 I/O (io), 173 I/O (io), 174 I/O (io), 175 I/O (io), 178 I/O (io), 179 I/O (io), 180 I/O (io), 182 I/O (io), 183 I/O (io), 185 I/O (io)
part C pins: 1 VCCIO 2.5V/3.3 V (power), 2 GND (power), 11 VCCINT 3.3V (power), 13 GND (power), 24 GND (power), 26 VCCIO 2.5V/3.3 V (power), 27 GND (power), 42 GND (power), 52 GND (power), 53 VCCIO 2.5V/3.3 V (power), 59 VCCINT 3.3V (power), 65 VCCIO 2.5V/3.3 V (power), 68 GND (power), 79 VCCIO 2.5V/3.3 V (power), 81 GND (power), 92 VCCIO 2.5V/3.3 V (power), 93 GND (power), 94 TDI (in), 96 TMS (in), 98 TCK (in), 104 GND (power), 105 VCCIO 2.5V/3.3 V (power), 108 GND (power), 124 VCCINT 3.3V (power), 129 GND (power), 130 GND (power), 132 VCCIO 2.5V/3.3 V (power), 141 GND (power), 153 VCCINT 3.3V (power), 156 GND (power), 157 VCCIO 2.5V/3.3 V (power), 163 GND (power), 172 VCCIO 2.5V/3.3 V (power), 176 TDO (out), 177 GND (power), 181 VCCIO 2.5V/3.3 V (power), 184 VCCIO 2.5V/3.3 V (power), 190 GND (power), 204 VCCINT 3.3V (power), 207 GND (power)
part A text: Block 1; Block 5; Block 2; Block 6; Block 3; Block 7; Block 4; Block 8
part B text: Block 9; Block 13; Block 10; Block 14; Block 11; Block 15; Block 12; Block 16

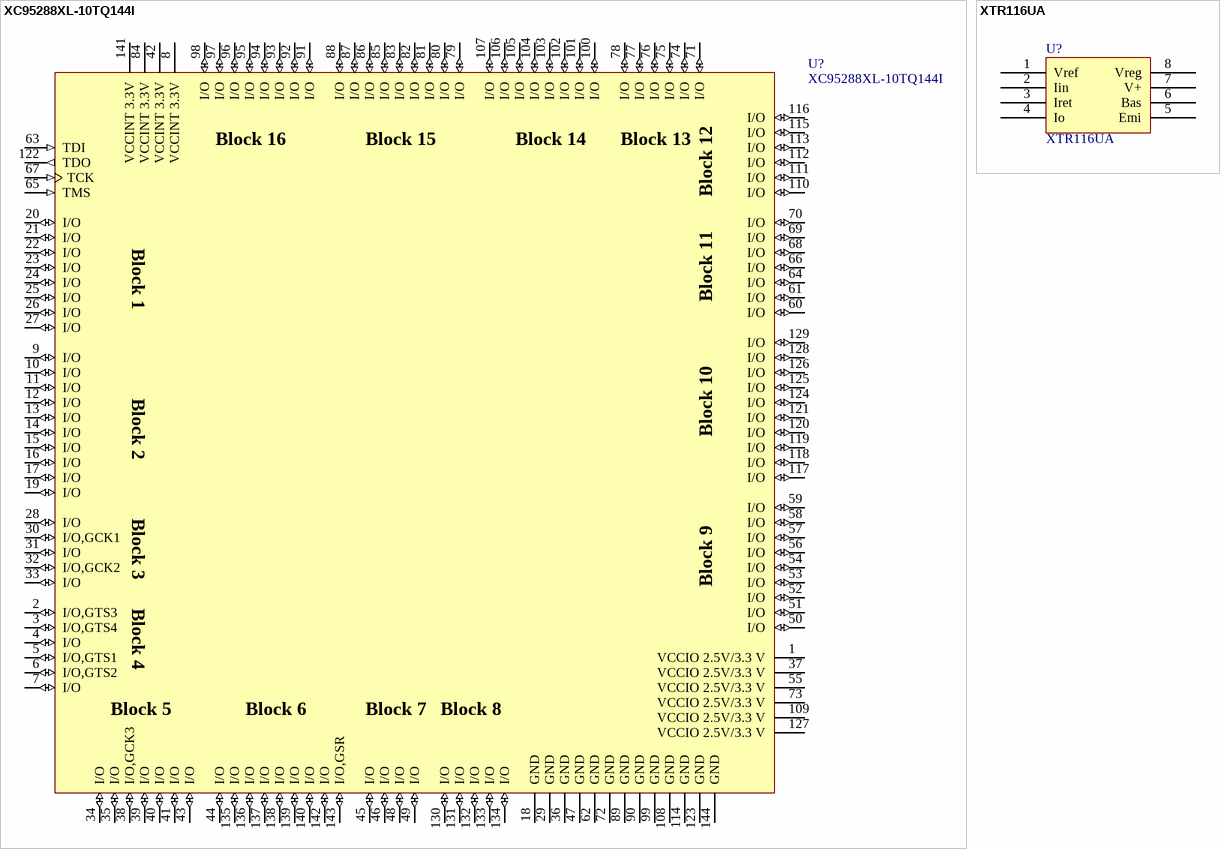
[diagram p7: symbols XC95288XL-10TQ144I to XTR116UA]

## XC95288XL-10TQ144I
designator U?
FastFLASH XC95288XL High-Performance CPLD; Manufacturer: Xilinx; Class I: Programmable Logic Device; Class II: XC9500; Published: 17-Jul-2002; Datasheet: Latest Revision: 19-Mar-2001; Package Reference: TQ144; Publisher: Altium Limited
footprint F-QFP20x20-G144/N
pins: 1 VCCIO 2.5V/3.3 V (power), 2 I/O,GTS3 (io), 3 I/O,GTS4 (io), 4 I/O (io), 5 I/O,GTS1 (io), 6 I/O,GTS2 (io), 7 I/O (io), 8 VCCINT 3.3V (power), 9 I/O (io), 10 I/O (io), 11 I/O (io), 12 I/O (io), 13 I/O (io), 14 I/O (io), 15 I/O (io), 16 I/O (io), 17 I/O (io), 18 GND (power), 19 I/O (io), 20 I/O (io), 21 I/O (io), 22 I/O (io), 23 I/O (io), 24 I/O (io), 25 I/O (io), 26 I/O (io), 27 I/O (io), 28 I/O (io), 29 GND (power), 30 I/O,GCK1 (io), 31 I/O (io), 32 I/O,GCK2 (io), 33 I/O (io), 34 I/O (io), 35 I/O (io), 36 GND (power), 37 VCCIO 2.5V/3.3 V (power), 38 I/O,GCK3 (io), 39 I/O (io), 40 I/O (io), 41 I/O (io), 42 VCCINT 3.3V (power), 43 I/O (io), 44 I/O (io), 45 I/O (io), 46 I/O (io), 47 GND (power), 48 I/O (io), 49 I/O (io), 50 I/O (io), 51 I/O (io), 52 I/O (io), 53 I/O (io), 54 I/O (io), 55 VCCIO 2.5V/3.3 V (power), 56 I/O (io), 57 I/O (io), 58 I/O (io), 59 I/O (io), 60 I/O (io), 61 I/O (io), 62 GND (power), 63 TDI (in), 64 I/O (io), 65 TMS (in), 66 I/O (io), 67 TCK (in), 68 I/O (io), 69 I/O (io), 70 I/O (io), 71 I/O (io), 72 GND (power), 73 VCCIO 2.5V/3.3 V (power), 74 I/O (io), 75 I/O (io), 76 I/O (io), 77 I/O (io), 78 I/O (io), 79 I/O (io), 80 I/O (io), 81 I/O (io), 82 I/O (io), 83 I/O (io), 84 VCCINT 3.3V (power), 85 I/O (io), 86 I/O (io), 87 I/O (io), 88 I/O (io), 89 GND (power), 90 GND (power), 91 I/O (io), 92 I/O (io), 93 I/O (io), 94 I/O (io), 95 I/O (io), 96 I/O (io), 97 I/O (io), 98 I/O (io), 99 GND (power), 100 I/O (io), 101 I/O (io), 102 I/O (io), 103 I/O (io), 104 I/O (io), 105 I/O (io), 106 I/O (io), 107 I/O (io), 108 GND (power), 109 VCCIO 2.5V/3.3 V (power), 110 I/O (io), 111 I/O (io), 112 I/O (io), 113 I/O (io), 114 GND (power), 115 I/O (io), 116 I/O (io), 117 I/O (io), 118 I/O (io), 119 I/O (io), 120 I/O (io), 121 I/O (io), 122 TDO (out), 123 GND (power), 124 I/O (io), 125 I/O (io), 126 I/O (io), 127 VCCIO 2.5V/3.3 V (power), 128 I/O (io), 129 I/O (io), 130 I/O (io), 131 I/O (io), 132 I/O (io), 133 I/O (io), 134 I/O (io), 135 I/O (io), 136 I/O (io), 137 I/O (io), 138 I/O (io), 139 I/O (io), 140 I/O (io), 141 VCCINT 3.3V (power), 142 I/O (io), 143 I/O,GSR (io), 144 GND (power)
text: Block 16; Block 15; Block 14; Block 13; Block 12; Block 1; Block 11; Block 2; Block 10; Block 3; Block 9; Block 4; Block 5; Block 6; Block 7; Block 8

## XTR116UA
designator U?
Voltage Controlled Current Source
footprint SO-8
pins: 1 Vref, 2 Iin, 3 Iret, 4 Io, 5 Emi, 6 Bas, 7 V+, 8 Vreg